# Altium integrated library Actel Axcelerator.IntLib: 162 symbols (part 15 of 42)
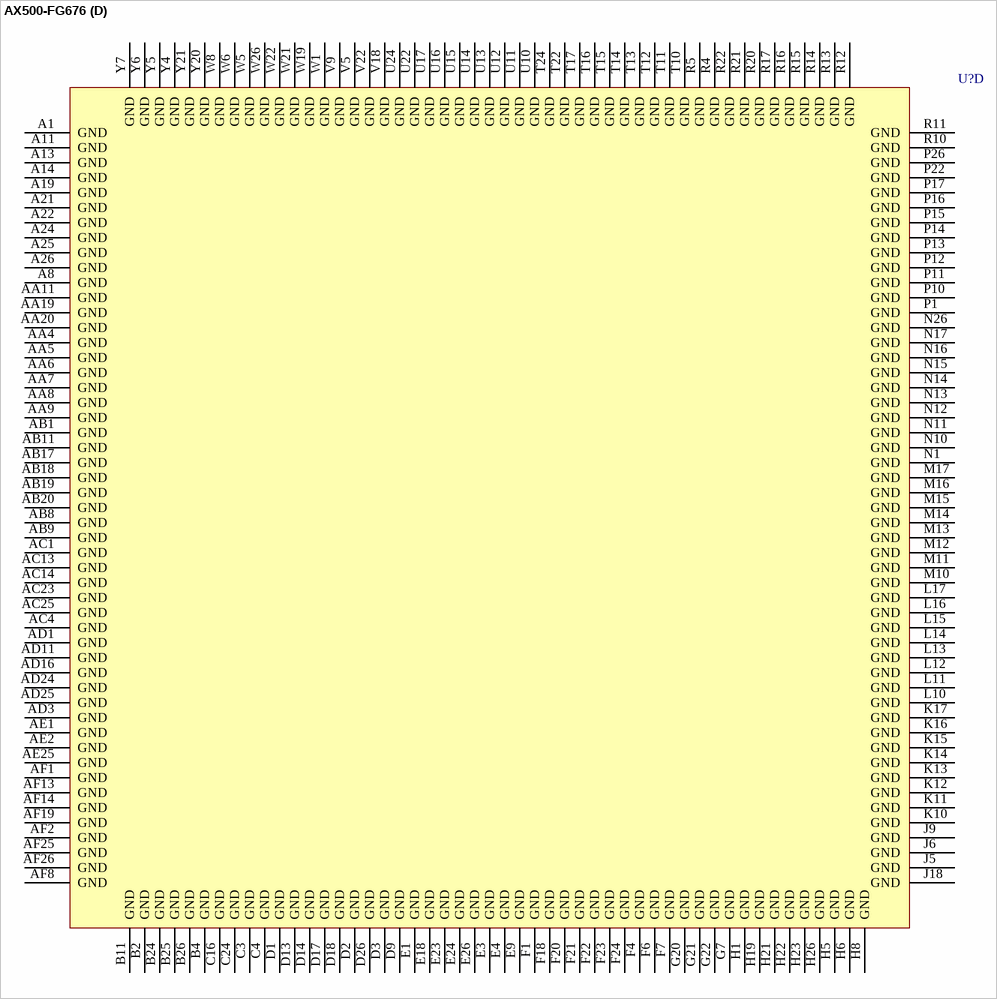
[diagram p413: symbol AX500-FG676]

## AX500-FG676
designator U?
Axcelerator AX500 FPGA, 336 I/Os, 676-Pin FBGA, Standard Speed Grade, Commercial Grade; DatasheetVersion: v2.8, Oct-2009; PackageVersion: rev39, Aug-2010; PackageReference: FG676; PackageDescription: 676-Ball Fine Pitch Plastic Ball Grid Array (FG676); Code_JEDEC: MS-034-AAL-1; Code_IPC: BGA100P26X26-676; ComponentLink1Description: Manufacturer URL; ComponentLink1URL: http://www.actel.com/; ComponentLink2Description: Axcelerator Datasheet; ComponentLink2URL: http://www.actel.com/documents/AX_DS.pdf; ComponentLink3Description: Package Mechanical Drawings; ComponentLink3URL: http://www.actel.com/documents/PckgMechDrwngs.pdf; ComponentLink4Description: Axcelerator Documents; ComponentLink4URL: http://www.actel.com/products/axcelerator/docs.aspx
footprint FG676 (BGA, 676-Leads, Body 27x27mm, Pitch 1mm)
part A pins: A4 IO01PB0F0 (io), A5 IO01NB0F0 (io), A6 IO07PB0F0 (io), A7 IO07NB0F0 (io), A9 IO16PB0F1 (io), A10 IO16NB0F1 (io), A12 IO19NB0F1/HCLKAN (io), A15 IO22NB1F2/HCLKDN (io), A16 IO24PB1F2 (io), A17 IO25PB1F2 (io), A18 IO25NB1F2 (io), A20 IO32PB1F3 (io), A23 IO38PB1F3 (io), AA22 IO82NB3F7 (io), AA23 IO81PB3F7 (io), AA24 IO75NB3F7 (io), AA25 IO78PB3F7 (io), AA26 IO74NB3F7 (io), AB23 IO81NB3F7 (io), AB24 IO80PB3F7 (io), AB25 IO78NB3F7 (io), AB26 IO79PB3F7 (io), AC24 IO80NB3F7 (io), AC26 IO79NB3F7 (io), AD26 IO83PB3F7 (io), AE26 IO83NB3F7 (io), B5 IO04NB0F0 (io), B6 IO05NB0F0 (io), B7 IO10PB0F0 (io), B8 IO10NB0F0 (io), B9 IO12NB0F1 (io), B10 IO15NB0F1 (io), B12 IO19PB0F1/HCLKAP (io), B13 IO20PB0F1/HCLKBP (io), B15 IO22PB1F2/HCLKDP (io), B16 IO24NB1F2 (io), B18 IO29PB1F2 (io), B19 IO29NB1F2 (io), B20 IO32NB1F3 (io), B21 IO33PB1F3 (io), B22 IO33NB1F3 (io), B23 IO38NB1F3 (io), C5 IO04PB0F0 (io), C6 IO05PB0F0 (io), C7 IO06NB0F0 (io), C8 IO08NB0F0 (io), C9 IO12PB0F1 (io), C10 IO15PB0F1 (io), C11 IO18PB0F1 (io), C12 IO18NB0F1 (io), C13 IO20NB0F1/HCLKBN (io), C14 IO21PB1F2/HCLKCP (io), C15 IO21NB1F2/HCLKCN (io), C17 IO28PB1F2 (io), C18 IO28NB1F2 (io), C19 IO30PB1F2 (io), C20 IO34PB1F3 (io), C21 IO35PB1F3 (io), C22 IO36PB1F3 (io), C23 IO40PB1F3 (io), C25 IO41PB1F3 (io), D5 IO03PB0F0 (io), D6 IO03NB0F0 (io), D7 IO06PB0F0 (io), D8 IO08PB0F0 (io), D10 IO11NB0F0 (io), D11 IO14NB0F1 (io), D16 IO26NB1F2 (io), D19 IO30NB1F2 (io), D20 IO34NB1F3 (io), D21 IO35NB1F3 (io), D22 IO36NB1F3 (io), D23 IO40NB1F3 (io), D25 IO41NB1F3 (io), E6 IO02PB0F0 (io), E7 IO02NB0F0 (io), E8 IO00PB0F0 (io), E10 IO11PB0F0 (io), E11 IO14PB0F1 (io), E16 IO26PB1F2 (io), E17 IO31PB1F2 (io), E19 IO37PB1F3 (io), E20 IO39PB1F3 (io), E21 IO39NB1F3 (io), E25 IO44PB2F4 (io), F8 IO00NB0F0 (io), F9 IO09PB0F0 (io), F10 IO09NB0F0 (io), F11 IO13NB0F1 (io), F12 IO17NB0F1 (io), F15 IO23NB1F2 (io), F16 IO27NB1F2 (io), F17 IO31NB1F2 (io), F19 IO37NB1F3 (io), F25 IO44NB2F4 (io), F26 IO43PB2F4 (io), G11 IO13PB0F1 (io), G12 IO17PB0F1 (io), G15 IO23PB1F2 (io), G16 IO27PB1F2 (io), G23 IO42PB2F4 (io), G24 IO42NB2F4 (io), G25 IO46PB2F4 (io), G26 IO43NB2F4 (io), H24 IO48PB2F4 (io), H25 IO46NB2F4 (io), J21 IO45NB2F4 (io), J22 IO45PB2F4 (io), J23 IO47PB2F4 (io), J24 IO48NB2F4 (io), J25 IO50PB2F4 (io), J26 IO52PB2F5 (io), K21 IO49NB2F4 (io), K22 IO49PB2F4 (io), K23 IO47NB2F4 (io), K24 IO54PB2F5 (io), K25 IO50NB2F4 (io), K26 IO52NB2F5 (io), L20 IO51NB2F4 (io), L21 IO51PB2F4 (io), L22 IO53PB2F5 (io), L23 IO53NB2F5 (io), L24 IO54NB2F5 (io), L25 IO56PB2F5 (io), L26 IO56NB2F5 (io), M20 IO55NB2F5 (io), M21 IO55PB2F5 (io), M22 IO57PB2F5 (io), M23 IO57NB2F5 (io), M24 IO60PB2F5 (io), M25 IO58PB2F5 (io), M26 IO58NB2F5 (io), N20 IO61NB2F5 (io), N21 IO61PB2F5 (io), N22 IO59NB2F5 (io), N23 IO59PB2F5 (io), N24 IO60NB2F5 (io), N25 IO62PB2F5 (io), P20 IO65NB3F6 (io), P21 IO65PB3F6 (io), P24 IO64PB3F6 (io), P25 IO62NB2F5 (io), R23 IO67PB3F6 (io), R24 IO64NB3F6 (io), R25 IO66PB3F6 (io), R26 IO63PB3F6 (io), T20 IO73PB3F6 (io), T21 IO73NB3F6 (io), T23 IO67NB3F6 (io), T25 IO66NB3F6 (io), T26 IO63NB3F6 (io), U21 IO77PB3F7 (io), U23 IO72PB3F6 (io), U25 IO69PB3F6 (io), U26 IO68PB3F6 (io), V21 IO77NB3F7 (io), V23 IO72NB3F6 (io), V24 IO71PB3F6 (io), V25 IO69NB3F6 (io), V26 IO68NB3F6 (io), W23 IO76PB3F7 (io), W24 IO71NB3F6 (io), W25 IO70PB3F6 (io), Y22 IO82PB3F7 (io), Y23 IO76NB3F7 (io), Y24 IO75PB3F7 (io), Y25 IO70NB3F6 (io), Y26 IO74PB3F7 (io)
part B pins: AA1 IO129PB6F12 (io), AA2 IO127NB6F12 (io), AA3 IO130PB6F12 (io), AA10 IO115NB5F11 (io), AA12 IO111PB5F10 (io), AA13 IO107PB5F10 (io), AA15 IO101NB4F9 (io), AA16 IO97NB4F9 (io), AA17 IO91NB4F8 (io), AA18 IO91PB4F8 (io), AA21 IO84PB4F8 (io), AB2 IO127PB6F12 (io), AB3 IO126NB6F12 (io), AB6 IO124NB5F11 (io), AB7 IO124PB5F11 (io), AB10 IO115PB5F11 (io), AB12 IO108PB5F10 (io), AB15 IO102PB4F9 (io), AB16 IO99PB4F9 (io), AB21 IO84NB4F8 (io), AC2 IO128NB6F12 (io), AC3 IO126PB6F12 (io), AC5 IO122NB5F11 (io), AC6 IO122PB5F11 (io), AC7 IO118NB5F11 (io), AC8 IO118PB5F11 (io), AC9 IO113NB5F10 (io), AC10 IO109NB5F10 (io), AC11 IO109PB5F10 (io), AC12 IO108NB5F10 (io), AC15 IO102NB4F9 (io), AC16 IO99NB4F9 (io), AC17 IO95NB4F9 (io), AC18 IO95PB4F9 (io), AC19 IO89NB4F8 (io), AC20 IO89PB4F8 (io), AC21 IO86NB4F8 (io), AC22 IO86PB4F8 (io), AD2 IO128PB6F12 (io), AD4 IO123NB5F11 (io), AD5 IO123PB5F11 (io), AD6 IO119NB5F11 (io), AD7 IO117NB5F11 (io), AD8 IO117PB5F11 (io), AD9 IO113PB5F10 (io), AD18 IO96NB4F9 (io), AD19 IO96PB4F9 (io), AD20 IO92NB4F8 (io), AD21 IO92PB4F8 (io), AD22 IO88NB4F8 (io), AD23 IO88PB4F8 (io), AE3 IO125NB5F11 (io), AE4 IO121PB5F11 (io), AE5 IO120NB5F11 (io), AE6 IO119PB5F11 (io), AE7 IO116NB5F11 (io), AE8 IO116PB5F11 (io), AE9 IO112NB5F10 (io), AE10 IO112PB5F10 (io), AE11 IO106NB5F10/CLKHN (io), AE12 IO105NB5F10/CLKGN (io), AE13 IO105PB5F10/CLKGP (io), AE14 IO104NB4F9/CLKFN (io), AE15 IO104PB4F9/CLKFP (io), AE16 IO103NB4F9/CLKEN (io), AE17 IO98NB4F9 (io), AE18 IO98PB4F9 (io), AE19 IO94NB4F9 (io), AE20 IO94PB4F9 (io), AE21 IO90NB4F8 (io), AE22 IO90PB4F8 (io), AE23 IO85NB4F8 (io), AE24 IO85PB4F8 (io), AF3 IO125PB5F11 (io), AF4 IO121NB5F11 (io), AF5 IO120PB5F11 (io), AF6 IO114NB5F11 (io), AF7 IO114PB5F11 (io), AF9 IO110NB5F10 (io), AF10 IO110PB5F10 (io), AF11 IO106PB5F10/CLKHP (io), AF16 IO103PB4F9/CLKEP (io), AF17 IO100NB4F9 (io), AF18 IO100PB4F9 (io), AF20 IO93NB4F8 (io), AF21 IO93PB4F8 (io), AF22 IO87NB4F8 (io), AF23 IO87PB4F8 (io), E2 IO166NB7F15 (io), F2 IO166PB7F15 (io), F3 IO165NB7F15 (io), F5 IO167NB7F15 (io), G1 IO163PB7F15 (io), G2 IO163NB7F15 (io), G3 IO165PB7F15 (io), G4 IO164NB7F15 (io), G5 IO167PB7F15 (io), H2 IO160NB7F15 (io), H3 IO162NB7F15 (io), H4 IO164PB7F15 (io), J1 IO158NB7F15 (io), J2 IO160PB7F15 (io), J3 IO162PB7F15 (io), J4 IO159NB7F15 (io), K1 IO158PB7F15 (io), K2 IO154NB7F14 (io), K3 IO155NB7F14 (io), K4 IO159PB7F15 (io), K5 IO161PB7F15 (io), K6 IO161NB7F15 (io), L1 IO150NB7F14 (io), L2 IO154PB7F14 (io), L3 IO155PB7F14 (io), L4 IO156PB7F14 (io), L5 IO156NB7F14 (io), L6 IO157NB7F14 (io), L7 IO157PB7F14 (io), M1 IO150PB7F14 (io), M2 IO151NB7F14 (io), M3 IO151PB7F14 (io), M4 IO152PB7F14 (io), M5 IO152NB7F14 (io), M6 IO153PB7F14 (io), M7 IO153NB7F14 (io), N2 IO149NB7F14 (io), N3 IO149PB7F14 (io), N4 IO148PB7F14 (io), N5 IO148NB7F14 (io), N6 IO147NB7F14 (io), N7 IO147PB7F14 (io), P3 IO143NB6F13 (io), P4 IO144PB6F13 (io), P5 IO144NB6F13 (io), P6 IO145NB6F13 (io), P7 IO145PB6F13 (io), R1 IO146NB6F13 (io), R2 IO142NB6F13 (io), R3 IO143PB6F13 (io), R6 IO139NB6F13 (io), R7 IO139PB6F13 (io), T1 IO146PB6F13 (io), T2 IO142PB6F13 (io), T3 IO140NB6F13 (io), T4 IO138PB6F13 (io), T5 IO138NB6F13 (io), T6 IO137NB6F13 (io), T7 IO137PB6F13 (io), U1 IO141NB6F13 (io), U2 IO141PB6F13 (io), U3 IO140PB6F13 (io), U4 IO136NB6F13 (io), U5 IO136PB6F13 (io), U6 IO131NB6F12 (io), V1 IO135NB6F12 (io), V2 IO135PB6F12 (io), V3 IO134NB6F12 (io), V4 IO133NB6F12 (io), V6 IO131PB6F12 (io), W2 IO132NB6F12 (io), W3 IO134PB6F12 (io), W4 IO133PB6F12 (io), Y1 IO129NB6F12 (io), Y2 IO132PB6F12 (io), Y3 IO130NB6F12 (io), Y11 IO111NB5F10 (io), Y12 IO107NB5F10 (io), Y15 IO101PB4F9 (io), Y16 IO97PB4F9 (io)
part C pins: A2 ~{TRST} (in), A3 VCCDA (power), AA14 VCCPLF (power), AB4 VCCA (power), AB5 VCCDA (power), AB13 VCCPLH (power), AB14 VCOMPLF (power), AB22 VCCDA (power), AD10 VCCDA (power), AD12 VCOMPLG (power), AD13 VCCDA (power), AD14 PRD (out), AD15 VCOMPLE (power), AD17 VCCDA (power), AF12 VCCPLG (power), AF15 VCCPLE (power), AF24 VCCA (power), B1 VCCDA (power), B3 TDI (in), B14 PRB (out), B17 VCCDA (power), C1 VCCA (power), C2 LP (in), C26 VCCA (power), D4 TMS (in), D12 VCOMPLA (power), D15 VCOMPLC (power), D24 VCCDA (power), E5 TCK (in), E12 VCCPLA (power), E13 PRA (out), E14 VCCDA (power), E15 VCCPLC (power), E22 VPUMP (power), F13 VCCPLB (power), F14 VCOMPLD (power), G6 TDO (hiz), G8 VCCIB0 (power), G9 VCCIB0 (power), G10 VCCIB0 (power), G13 VCOMPLB (power), G14 VCCPLD (power), G17 VCCIB1 (power), G18 VCCIB1 (power), G19 VCCIB1 (power), H7 VCCIB7 (power), H9 VCCIB0 (power), H10 VCCIB0 (power), H11 VCCIB0 (power), H12 VCCIB0 (power), H13 VCCIB0 (power), H14 VCCIB1 (power), H15 VCCIB1 (power), H16 VCCIB1 (power), H17 VCCIB1 (power), H18 VCCIB1 (power), H20 VCCIB2 (power), J7 VCCIB7 (power), J8 VCCIB7 (power), J10 VCCA (power), J11 VCCA (power), J12 VCCA (power), J13 VCCA (power), J14 VCCA (power), J15 VCCA (power), J16 VCCA (power), J17 VCCA (power), J19 VCCIB2 (power), J20 VCCIB2 (power), K7 VCCIB7 (power), K8 VCCIB7 (power), K9 VCCA (power), K18 VCCA (power), K19 VCCIB2 (power), K20 VCCIB2 (power), L8 VCCIB7 (power), L9 VCCA (power), L18 VCCA (power), L19 VCCIB2 (power), M8 VCCIB7 (power), M9 VCCA (power), M18 VCCA (power), M19 VCCIB2 (power), N8 VCCIB7 (power), N9 VCCA (power), N18 VCCA (power), N19 VCCIB2 (power), P2 VCCDA (power), P8 VCCIB6 (power), P9 VCCA (power), P18 VCCA (power), P19 VCCIB3 (power), P23 VCCDA (power), R8 VCCIB6 (power), R9 VCCA (power), R18 VCCA (power), R19 VCCIB3 (power), T8 VCCIB6 (power), T9 VCCA (power), T18 VCCA (power), T19 VCCIB3 (power), U7 VCCIB6 (power), U8 VCCIB6 (power), U9 VCCA (power), U18 VCCA (power), U19 VCCIB3 (power), U20 VCCIB3 (power), V7 VCCIB6 (power), V8 VCCIB6 (power), V10 VCCA (power), V11 VCCA (power), V12 VCCA (power), V13 VCCA (power), V14 VCCA (power), V15 VCCA (power), V16 VCCA (power), V17 VCCA (power), V19 VCCIB3 (power), V20 VCCIB3 (power), W7 VCCIB6 (power), W9 VCCIB5 (power), W10 VCCIB5 (power), W11 VCCIB5 (power), W12 VCCIB5 (power), W13 VCCIB5 (power), W14 VCCIB4 (power), W15 VCCIB4 (power), W16 VCCIB4 (power), W17 VCCIB4 (power), W18 VCCIB4 (power), W20 VCCIB3 (power), Y8 VCCIB5 (power), Y9 VCCIB5 (power), Y10 VCCIB5 (power), Y13 VCOMPLH (power), Y14 PRC (out), Y17 VCCIB4 (power), Y18 VCCIB4 (power), Y19 VCCIB4 (power)
part D pins: A1 GND (power), A8 GND (power), A11 GND (power), A13 GND (power), A14 GND (power), A19 GND (power), A21 GND (power), A22 GND (power), A24 GND (power), A25 GND (power), A26 GND (power), AA4 GND (power), AA5 GND (power), AA6 GND (power), AA7 GND (power), AA8 GND (power), AA9 GND (power), AA11 GND (power), AA19 GND (power), AA20 GND (power), AB1 GND (power), AB8 GND (power), AB9 GND (power), AB11 GND (power), AB17 GND (power), AB18 GND (power), AB19 GND (power), AB20 GND (power), AC1 GND (power), AC4 GND (power), AC13 GND (power), AC14 GND (power), AC23 GND (power), AC25 GND (power), AD1 GND (power), AD3 GND (power), AD11 GND (power), AD16 GND (power), AD24 GND (power), AD25 GND (power), AE1 GND (power), AE2 GND (power), AE25 GND (power), AF1 GND (power), AF2 GND (power), AF8 GND (power), AF13 GND (power), AF14 GND (power), AF19 GND (power), AF25 GND (power), AF26 GND (power), B2 GND (power), B4 GND (power), B11 GND (power), B24 GND (power), B25 GND (power), B26 GND (power), C3 GND (power), C4 GND (power), C16 GND (power), C24 GND (power), D1 GND (power), D2 GND (power), D3 GND (power), D9 GND (power), D13 GND (power), D14 GND (power), D17 GND (power), D18 GND (power), D26 GND (power), E1 GND (power), E3 GND (power), E4 GND (power), E9 GND (power), E18 GND (power), E23 GND (power), E24 GND (power), E26 GND (power), F1 GND (power), F4 GND (power), F6 GND (power), F7 GND (power), F18 GND (power), F20 GND (power), F21 GND (power), F22 GND (power), F23 GND (power), F24 GND (power), G7 GND (power), G20 GND (power), G21 GND (power), G22 GND (power), H1 GND (power), H5 GND (power), H6 GND (power), H8 GND (power), H19 GND (power), H21 GND (power), H22 GND (power), H23 GND (power), H26 GND (power), J5 GND (power), J6 GND (power), J9 GND (power), J18 GND (power), K10 GND (power), K11 GND (power), K12 GND (power), K13 GND (power), K14 GND (power), K15 GND (power), K16 GND (power), K17 GND (power), L10 GND (power), L11 GND (power), L12 GND (power), L13 GND (power), L14 GND (power), L15 GND (power), L16 GND (power), L17 GND (power), M10 GND (power), M11 GND (power), M12 GND (power), M13 GND (power), M14 GND (power), M15 GND (power), M16 GND (power), M17 GND (power), N1 GND (power), N10 GND (power), N11 GND (power), N12 GND (power), N13 GND (power), N14 GND (power), N15 GND (power), N16 GND (power), N17 GND (power), N26 GND (power), P1 GND (power), P10 GND (power), P11 GND (power), P12 GND (power), P13 GND (power), P14 GND (power), P15 GND (power), P16 GND (power), P17 GND (power), P22 GND (power), P26 GND (power), R4 GND (power), R5 GND (power), R10 GND (power), R11 GND (power), R12 GND (power), R13 GND (power), R14 GND (power), R15 GND (power), R16 GND (power), R17 GND (power), R20 GND (power), R21 GND (power), R22 GND (power), T10 GND (power), T11 GND (power), T12 GND (power), T13 GND (power), T14 GND (power), T15 GND (power), T16 GND (power), T17 GND (power), T22 GND (power), T24 GND (power), U10 GND (power), U11 GND (power), U12 GND (power), U13 GND (power), U14 GND (power), U15 GND (power), U16 GND (power), U17 GND (power), U22 GND (power), U24 GND (power), V5 GND (power), V9 GND (power), V18 GND (power), V22 GND (power), W1 GND (power), W5 GND (power), W6 GND (power), W8 GND (power), W19 GND (power), W21 GND (power), W22 GND (power), W26 GND (power), Y4 GND (power), Y5 GND (power), Y6 GND (power), Y7 GND (power), Y20 GND (power), Y21 GND (power)
part A text: Bank 0; Bank 3; Bank 1; Bank 2
part B text: Bank 4; Bank 7; Bank 5; Bank 6

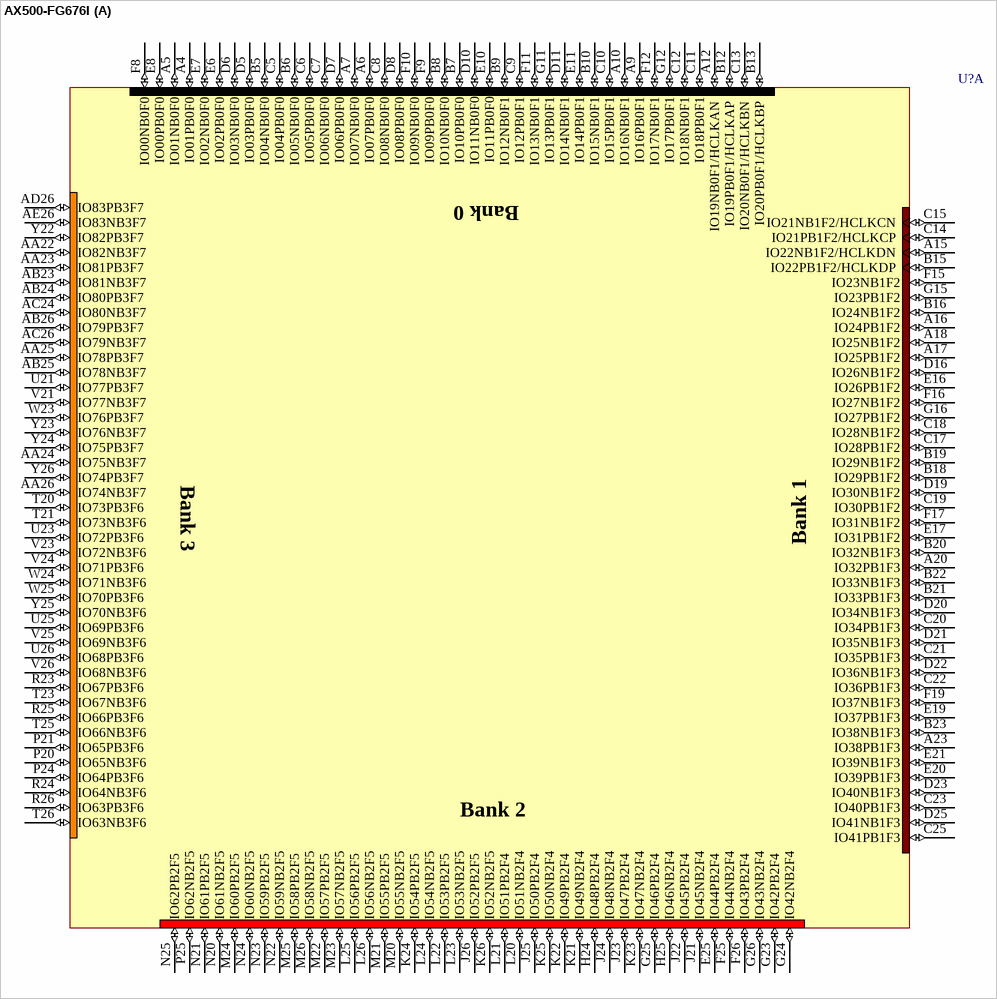
[diagram p173: symbol AX500-FG676I]

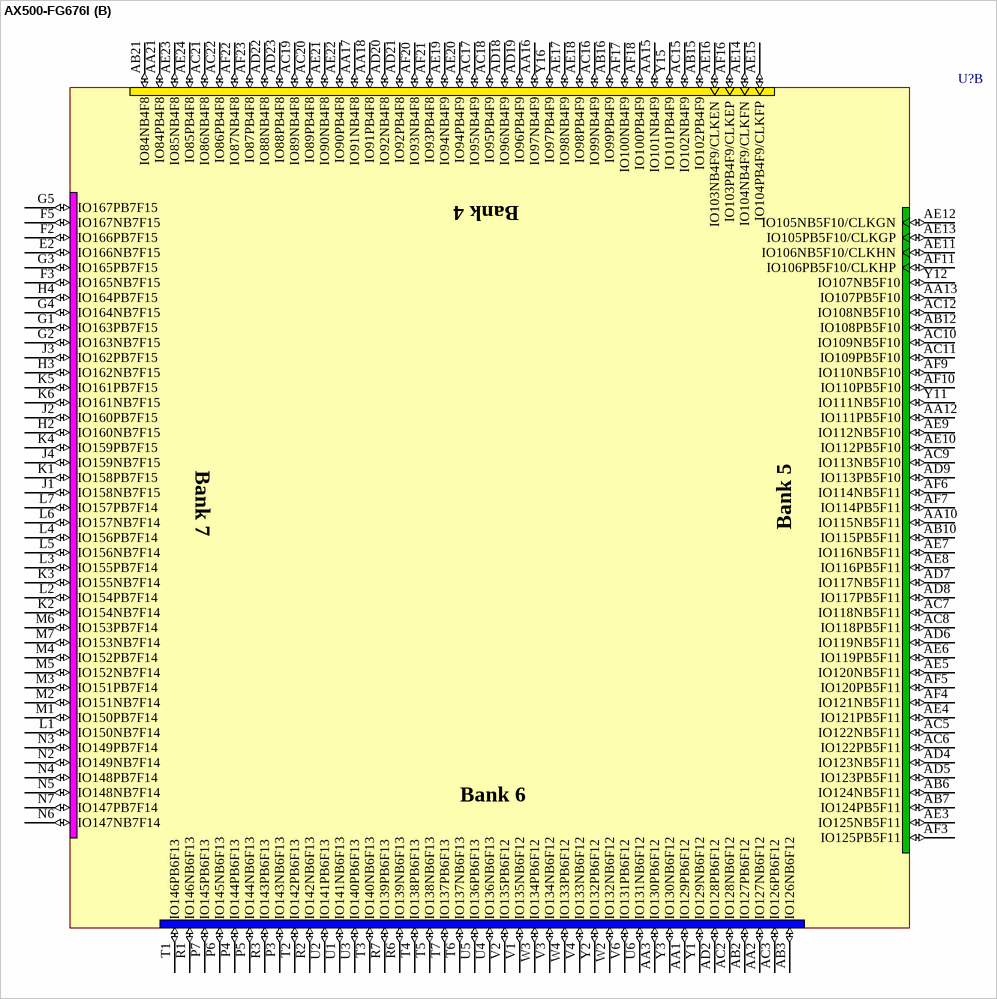
[diagram p174: symbol AX500-FG676I]

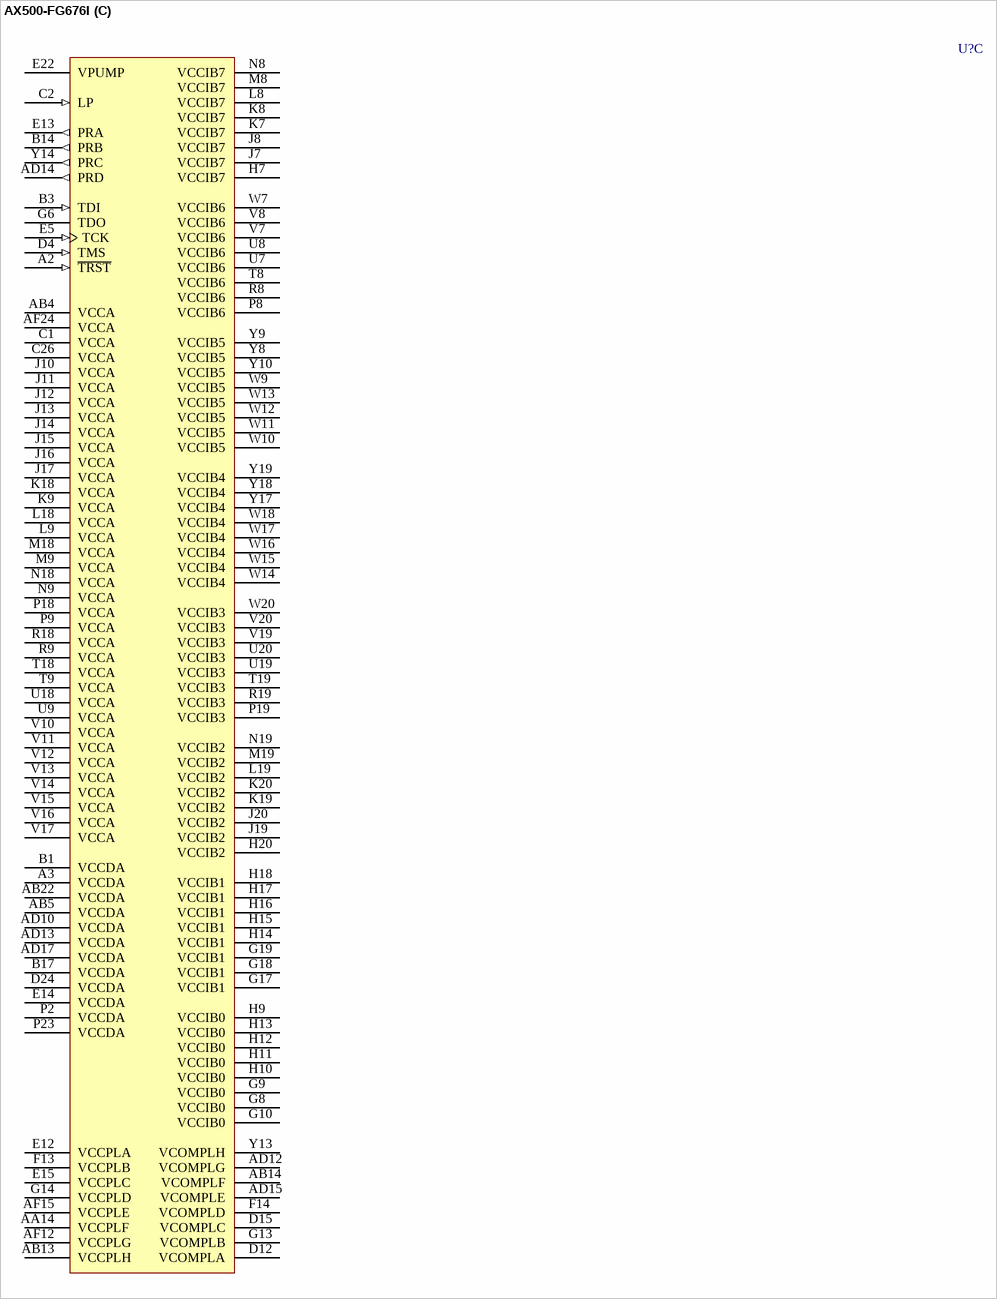
[diagram p175: symbol AX500-FG676I]

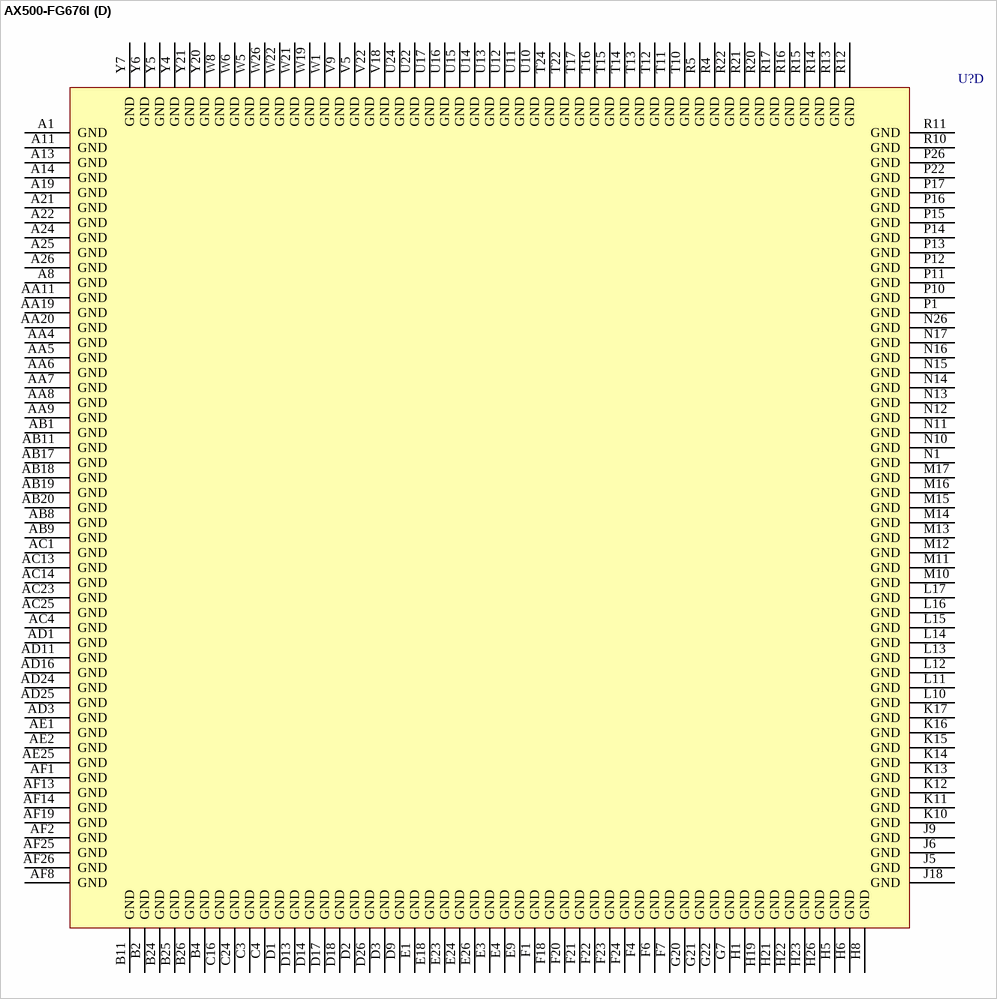
[diagram p176: symbol AX500-FG676I]

## AX500-FG676I
designator U?
Axcelerator AX500 FPGA, 336 I/Os, 676-Pin FBGA, Standard Speed Grade, Industrial Grade; DatasheetVersion: v2.8, Oct-2009; PackageVersion: rev39, Aug-2010; PackageReference: FG676; PackageDescription: 676-Ball Fine Pitch Plastic Ball Grid Array (FG676); Code_JEDEC: MS-034-AAL-1; Code_IPC: BGA100P26X26-676; ComponentLink1Description: Manufacturer URL; ComponentLink1URL: http://www.actel.com/; ComponentLink2Description: Axcelerator Datasheet; ComponentLink2URL: http://www.actel.com/documents/AX_DS.pdf; ComponentLink3Description: Package Mechanical Drawings; ComponentLink3URL: http://www.actel.com/documents/PckgMechDrwngs.pdf; ComponentLink4Description: Axcelerator Documents; ComponentLink4URL: http://www.actel.com/products/axcelerator/docs.aspx
footprint FG676 (BGA, 676-Leads, Body 27x27mm, Pitch 1mm)
part A pins: A4 IO01PB0F0 (io), A5 IO01NB0F0 (io), A6 IO07PB0F0 (io), A7 IO07NB0F0 (io), A9 IO16PB0F1 (io), A10 IO16NB0F1 (io), A12 IO19NB0F1/HCLKAN (io), A15 IO22NB1F2/HCLKDN (io), A16 IO24PB1F2 (io), A17 IO25PB1F2 (io), A18 IO25NB1F2 (io), A20 IO32PB1F3 (io), A23 IO38PB1F3 (io), AA22 IO82NB3F7 (io), AA23 IO81PB3F7 (io), AA24 IO75NB3F7 (io), AA25 IO78PB3F7 (io), AA26 IO74NB3F7 (io), AB23 IO81NB3F7 (io), AB24 IO80PB3F7 (io), AB25 IO78NB3F7 (io), AB26 IO79PB3F7 (io), AC24 IO80NB3F7 (io), AC26 IO79NB3F7 (io), AD26 IO83PB3F7 (io), AE26 IO83NB3F7 (io), B5 IO04NB0F0 (io), B6 IO05NB0F0 (io), B7 IO10PB0F0 (io), B8 IO10NB0F0 (io), B9 IO12NB0F1 (io), B10 IO15NB0F1 (io), B12 IO19PB0F1/HCLKAP (io), B13 IO20PB0F1/HCLKBP (io), B15 IO22PB1F2/HCLKDP (io), B16 IO24NB1F2 (io), B18 IO29PB1F2 (io), B19 IO29NB1F2 (io), B20 IO32NB1F3 (io), B21 IO33PB1F3 (io), B22 IO33NB1F3 (io), B23 IO38NB1F3 (io), C5 IO04PB0F0 (io), C6 IO05PB0F0 (io), C7 IO06NB0F0 (io), C8 IO08NB0F0 (io), C9 IO12PB0F1 (io), C10 IO15PB0F1 (io), C11 IO18PB0F1 (io), C12 IO18NB0F1 (io), C13 IO20NB0F1/HCLKBN (io), C14 IO21PB1F2/HCLKCP (io), C15 IO21NB1F2/HCLKCN (io), C17 IO28PB1F2 (io), C18 IO28NB1F2 (io), C19 IO30PB1F2 (io), C20 IO34PB1F3 (io), C21 IO35PB1F3 (io), C22 IO36PB1F3 (io), C23 IO40PB1F3 (io), C25 IO41PB1F3 (io), D5 IO03PB0F0 (io), D6 IO03NB0F0 (io), D7 IO06PB0F0 (io), D8 IO08PB0F0 (io), D10 IO11NB0F0 (io), D11 IO14NB0F1 (io), D16 IO26NB1F2 (io), D19 IO30NB1F2 (io), D20 IO34NB1F3 (io), D21 IO35NB1F3 (io), D22 IO36NB1F3 (io), D23 IO40NB1F3 (io), D25 IO41NB1F3 (io), E6 IO02PB0F0 (io), E7 IO02NB0F0 (io), E8 IO00PB0F0 (io), E10 IO11PB0F0 (io), E11 IO14PB0F1 (io), E16 IO26PB1F2 (io), E17 IO31PB1F2 (io), E19 IO37PB1F3 (io), E20 IO39PB1F3 (io), E21 IO39NB1F3 (io), E25 IO44PB2F4 (io), F8 IO00NB0F0 (io), F9 IO09PB0F0 (io), F10 IO09NB0F0 (io), F11 IO13NB0F1 (io), F12 IO17NB0F1 (io), F15 IO23NB1F2 (io), F16 IO27NB1F2 (io), F17 IO31NB1F2 (io), F19 IO37NB1F3 (io), F25 IO44NB2F4 (io), F26 IO43PB2F4 (io), G11 IO13PB0F1 (io), G12 IO17PB0F1 (io), G15 IO23PB1F2 (io), G16 IO27PB1F2 (io), G23 IO42PB2F4 (io), G24 IO42NB2F4 (io), G25 IO46PB2F4 (io), G26 IO43NB2F4 (io), H24 IO48PB2F4 (io), H25 IO46NB2F4 (io), J21 IO45NB2F4 (io), J22 IO45PB2F4 (io), J23 IO47PB2F4 (io), J24 IO48NB2F4 (io), J25 IO50PB2F4 (io), J26 IO52PB2F5 (io), K21 IO49NB2F4 (io), K22 IO49PB2F4 (io), K23 IO47NB2F4 (io), K24 IO54PB2F5 (io), K25 IO50NB2F4 (io), K26 IO52NB2F5 (io), L20 IO51NB2F4 (io), L21 IO51PB2F4 (io), L22 IO53PB2F5 (io), L23 IO53NB2F5 (io), L24 IO54NB2F5 (io), L25 IO56PB2F5 (io), L26 IO56NB2F5 (io), M20 IO55NB2F5 (io), M21 IO55PB2F5 (io), M22 IO57PB2F5 (io), M23 IO57NB2F5 (io), M24 IO60PB2F5 (io), M25 IO58PB2F5 (io), M26 IO58NB2F5 (io), N20 IO61NB2F5 (io), N21 IO61PB2F5 (io), N22 IO59NB2F5 (io), N23 IO59PB2F5 (io), N24 IO60NB2F5 (io), N25 IO62PB2F5 (io), P20 IO65NB3F6 (io), P21 IO65PB3F6 (io), P24 IO64PB3F6 (io), P25 IO62NB2F5 (io), R23 IO67PB3F6 (io), R24 IO64NB3F6 (io), R25 IO66PB3F6 (io), R26 IO63PB3F6 (io), T20 IO73PB3F6 (io), T21 IO73NB3F6 (io), T23 IO67NB3F6 (io), T25 IO66NB3F6 (io), T26 IO63NB3F6 (io), U21 IO77PB3F7 (io), U23 IO72PB3F6 (io), U25 IO69PB3F6 (io), U26 IO68PB3F6 (io), V21 IO77NB3F7 (io), V23 IO72NB3F6 (io), V24 IO71PB3F6 (io), V25 IO69NB3F6 (io), V26 IO68NB3F6 (io), W23 IO76PB3F7 (io), W24 IO71NB3F6 (io), W25 IO70PB3F6 (io), Y22 IO82PB3F7 (io), Y23 IO76NB3F7 (io), Y24 IO75PB3F7 (io), Y25 IO70NB3F6 (io), Y26 IO74PB3F7 (io)
part B pins: AA1 IO129PB6F12 (io), AA2 IO127NB6F12 (io), AA3 IO130PB6F12 (io), AA10 IO115NB5F11 (io), AA12 IO111PB5F10 (io), AA13 IO107PB5F10 (io), AA15 IO101NB4F9 (io), AA16 IO97NB4F9 (io), AA17 IO91NB4F8 (io), AA18 IO91PB4F8 (io), AA21 IO84PB4F8 (io), AB2 IO127PB6F12 (io), AB3 IO126NB6F12 (io), AB6 IO124NB5F11 (io), AB7 IO124PB5F11 (io), AB10 IO115PB5F11 (io), AB12 IO108PB5F10 (io), AB15 IO102PB4F9 (io), AB16 IO99PB4F9 (io), AB21 IO84NB4F8 (io), AC2 IO128NB6F12 (io), AC3 IO126PB6F12 (io), AC5 IO122NB5F11 (io), AC6 IO122PB5F11 (io), AC7 IO118NB5F11 (io), AC8 IO118PB5F11 (io), AC9 IO113NB5F10 (io), AC10 IO109NB5F10 (io), AC11 IO109PB5F10 (io), AC12 IO108NB5F10 (io), AC15 IO102NB4F9 (io), AC16 IO99NB4F9 (io), AC17 IO95NB4F9 (io), AC18 IO95PB4F9 (io), AC19 IO89NB4F8 (io), AC20 IO89PB4F8 (io), AC21 IO86NB4F8 (io), AC22 IO86PB4F8 (io), AD2 IO128PB6F12 (io), AD4 IO123NB5F11 (io), AD5 IO123PB5F11 (io), AD6 IO119NB5F11 (io), AD7 IO117NB5F11 (io), AD8 IO117PB5F11 (io), AD9 IO113PB5F10 (io), AD18 IO96NB4F9 (io), AD19 IO96PB4F9 (io), AD20 IO92NB4F8 (io), AD21 IO92PB4F8 (io), AD22 IO88NB4F8 (io), AD23 IO88PB4F8 (io), AE3 IO125NB5F11 (io), AE4 IO121PB5F11 (io), AE5 IO120NB5F11 (io), AE6 IO119PB5F11 (io), AE7 IO116NB5F11 (io), AE8 IO116PB5F11 (io), AE9 IO112NB5F10 (io), AE10 IO112PB5F10 (io), AE11 IO106NB5F10/CLKHN (io), AE12 IO105NB5F10/CLKGN (io), AE13 IO105PB5F10/CLKGP (io), AE14 IO104NB4F9/CLKFN (io), AE15 IO104PB4F9/CLKFP (io), AE16 IO103NB4F9/CLKEN (io), AE17 IO98NB4F9 (io), AE18 IO98PB4F9 (io), AE19 IO94NB4F9 (io), AE20 IO94PB4F9 (io), AE21 IO90NB4F8 (io), AE22 IO90PB4F8 (io), AE23 IO85NB4F8 (io), AE24 IO85PB4F8 (io), AF3 IO125PB5F11 (io), AF4 IO121NB5F11 (io), AF5 IO120PB5F11 (io), AF6 IO114NB5F11 (io), AF7 IO114PB5F11 (io), AF9 IO110NB5F10 (io), AF10 IO110PB5F10 (io), AF11 IO106PB5F10/CLKHP (io), AF16 IO103PB4F9/CLKEP (io), AF17 IO100NB4F9 (io), AF18 IO100PB4F9 (io), AF20 IO93NB4F8 (io), AF21 IO93PB4F8 (io), AF22 IO87NB4F8 (io), AF23 IO87PB4F8 (io), E2 IO166NB7F15 (io), F2 IO166PB7F15 (io), F3 IO165NB7F15 (io), F5 IO167NB7F15 (io), G1 IO163PB7F15 (io), G2 IO163NB7F15 (io), G3 IO165PB7F15 (io), G4 IO164NB7F15 (io), G5 IO167PB7F15 (io), H2 IO160NB7F15 (io), H3 IO162NB7F15 (io), H4 IO164PB7F15 (io), J1 IO158NB7F15 (io), J2 IO160PB7F15 (io), J3 IO162PB7F15 (io), J4 IO159NB7F15 (io), K1 IO158PB7F15 (io), K2 IO154NB7F14 (io), K3 IO155NB7F14 (io), K4 IO159PB7F15 (io), K5 IO161PB7F15 (io), K6 IO161NB7F15 (io), L1 IO150NB7F14 (io), L2 IO154PB7F14 (io), L3 IO155PB7F14 (io), L4 IO156PB7F14 (io), L5 IO156NB7F14 (io), L6 IO157NB7F14 (io), L7 IO157PB7F14 (io), M1 IO150PB7F14 (io), M2 IO151NB7F14 (io), M3 IO151PB7F14 (io), M4 IO152PB7F14 (io), M5 IO152NB7F14 (io), M6 IO153PB7F14 (io), M7 IO153NB7F14 (io), N2 IO149NB7F14 (io), N3 IO149PB7F14 (io), N4 IO148PB7F14 (io), N5 IO148NB7F14 (io), N6 IO147NB7F14 (io), N7 IO147PB7F14 (io), P3 IO143NB6F13 (io), P4 IO144PB6F13 (io), P5 IO144NB6F13 (io), P6 IO145NB6F13 (io), P7 IO145PB6F13 (io), R1 IO146NB6F13 (io), R2 IO142NB6F13 (io), R3 IO143PB6F13 (io), R6 IO139NB6F13 (io), R7 IO139PB6F13 (io), T1 IO146PB6F13 (io), T2 IO142PB6F13 (io), T3 IO140NB6F13 (io), T4 IO138PB6F13 (io), T5 IO138NB6F13 (io), T6 IO137NB6F13 (io), T7 IO137PB6F13 (io), U1 IO141NB6F13 (io), U2 IO141PB6F13 (io), U3 IO140PB6F13 (io), U4 IO136NB6F13 (io), U5 IO136PB6F13 (io), U6 IO131NB6F12 (io), V1 IO135NB6F12 (io), V2 IO135PB6F12 (io), V3 IO134NB6F12 (io), V4 IO133NB6F12 (io), V6 IO131PB6F12 (io), W2 IO132NB6F12 (io), W3 IO134PB6F12 (io), W4 IO133PB6F12 (io), Y1 IO129NB6F12 (io), Y2 IO132PB6F12 (io), Y3 IO130NB6F12 (io), Y11 IO111NB5F10 (io), Y12 IO107NB5F10 (io), Y15 IO101PB4F9 (io), Y16 IO97PB4F9 (io)
part C pins: A2 ~{TRST} (in), A3 VCCDA (power), AA14 VCCPLF (power), AB4 VCCA (power), AB5 VCCDA (power), AB13 VCCPLH (power), AB14 VCOMPLF (power), AB22 VCCDA (power), AD10 VCCDA (power), AD12 VCOMPLG (power), AD13 VCCDA (power), AD14 PRD (out), AD15 VCOMPLE (power), AD17 VCCDA (power), AF12 VCCPLG (power), AF15 VCCPLE (power), AF24 VCCA (power), B1 VCCDA (power), B3 TDI (in), B14 PRB (out), B17 VCCDA (power), C1 VCCA (power), C2 LP (in), C26 VCCA (power), D4 TMS (in), D12 VCOMPLA (power), D15 VCOMPLC (power), D24 VCCDA (power), E5 TCK (in), E12 VCCPLA (power), E13 PRA (out), E14 VCCDA (power), E15 VCCPLC (power), E22 VPUMP (power), F13 VCCPLB (power), F14 VCOMPLD (power), G6 TDO (hiz), G8 VCCIB0 (power), G9 VCCIB0 (power), G10 VCCIB0 (power), G13 VCOMPLB (power), G14 VCCPLD (power), G17 VCCIB1 (power), G18 VCCIB1 (power), G19 VCCIB1 (power), H7 VCCIB7 (power), H9 VCCIB0 (power), H10 VCCIB0 (power), H11 VCCIB0 (power), H12 VCCIB0 (power), H13 VCCIB0 (power), H14 VCCIB1 (power), H15 VCCIB1 (power), H16 VCCIB1 (power), H17 VCCIB1 (power), H18 VCCIB1 (power), H20 VCCIB2 (power), J7 VCCIB7 (power), J8 VCCIB7 (power), J10 VCCA (power), J11 VCCA (power), J12 VCCA (power), J13 VCCA (power), J14 VCCA (power), J15 VCCA (power), J16 VCCA (power), J17 VCCA (power), J19 VCCIB2 (power), J20 VCCIB2 (power), K7 VCCIB7 (power), K8 VCCIB7 (power), K9 VCCA (power), K18 VCCA (power), K19 VCCIB2 (power), K20 VCCIB2 (power), L8 VCCIB7 (power), L9 VCCA (power), L18 VCCA (power), L19 VCCIB2 (power), M8 VCCIB7 (power), M9 VCCA (power), M18 VCCA (power), M19 VCCIB2 (power), N8 VCCIB7 (power), N9 VCCA (power), N18 VCCA (power), N19 VCCIB2 (power), P2 VCCDA (power), P8 VCCIB6 (power), P9 VCCA (power), P18 VCCA (power), P19 VCCIB3 (power), P23 VCCDA (power), R8 VCCIB6 (power), R9 VCCA (power), R18 VCCA (power), R19 VCCIB3 (power), T8 VCCIB6 (power), T9 VCCA (power), T18 VCCA (power), T19 VCCIB3 (power), U7 VCCIB6 (power), U8 VCCIB6 (power), U9 VCCA (power), U18 VCCA (power), U19 VCCIB3 (power), U20 VCCIB3 (power), V7 VCCIB6 (power), V8 VCCIB6 (power), V10 VCCA (power), V11 VCCA (power), V12 VCCA (power), V13 VCCA (power), V14 VCCA (power), V15 VCCA (power), V16 VCCA (power), V17 VCCA (power), V19 VCCIB3 (power), V20 VCCIB3 (power), W7 VCCIB6 (power), W9 VCCIB5 (power), W10 VCCIB5 (power), W11 VCCIB5 (power), W12 VCCIB5 (power), W13 VCCIB5 (power), W14 VCCIB4 (power), W15 VCCIB4 (power), W16 VCCIB4 (power), W17 VCCIB4 (power), W18 VCCIB4 (power), W20 VCCIB3 (power), Y8 VCCIB5 (power), Y9 VCCIB5 (power), Y10 VCCIB5 (power), Y13 VCOMPLH (power), Y14 PRC (out), Y17 VCCIB4 (power), Y18 VCCIB4 (power), Y19 VCCIB4 (power)
part D pins: A1 GND (power), A8 GND (power), A11 GND (power), A13 GND (power), A14 GND (power), A19 GND (power), A21 GND (power), A22 GND (power), A24 GND (power), A25 GND (power), A26 GND (power), AA4 GND (power), AA5 GND (power), AA6 GND (power), AA7 GND (power), AA8 GND (power), AA9 GND (power), AA11 GND (power), AA19 GND (power), AA20 GND (power), AB1 GND (power), AB8 GND (power), AB9 GND (power), AB11 GND (power), AB17 GND (power), AB18 GND (power), AB19 GND (power), AB20 GND (power), AC1 GND (power), AC4 GND (power), AC13 GND (power), AC14 GND (power), AC23 GND (power), AC25 GND (power), AD1 GND (power), AD3 GND (power), AD11 GND (power), AD16 GND (power), AD24 GND (power), AD25 GND (power), AE1 GND (power), AE2 GND (power), AE25 GND (power), AF1 GND (power), AF2 GND (power), AF8 GND (power), AF13 GND (power), AF14 GND (power), AF19 GND (power), AF25 GND (power), AF26 GND (power), B2 GND (power), B4 GND (power), B11 GND (power), B24 GND (power), B25 GND (power), B26 GND (power), C3 GND (power), C4 GND (power), C16 GND (power), C24 GND (power), D1 GND (power), D2 GND (power), D3 GND (power), D9 GND (power), D13 GND (power), D14 GND (power), D17 GND (power), D18 GND (power), D26 GND (power), E1 GND (power), E3 GND (power), E4 GND (power), E9 GND (power), E18 GND (power), E23 GND (power), E24 GND (power), E26 GND (power), F1 GND (power), F4 GND (power), F6 GND (power), F7 GND (power), F18 GND (power), F20 GND (power), F21 GND (power), F22 GND (power), F23 GND (power), F24 GND (power), G7 GND (power), G20 GND (power), G21 GND (power), G22 GND (power), H1 GND (power), H5 GND (power), H6 GND (power), H8 GND (power), H19 GND (power), H21 GND (power), H22 GND (power), H23 GND (power), H26 GND (power), J5 GND (power), J6 GND (power), J9 GND (power), J18 GND (power), K10 GND (power), K11 GND (power), K12 GND (power), K13 GND (power), K14 GND (power), K15 GND (power), K16 GND (power), K17 GND (power), L10 GND (power), L11 GND (power), L12 GND (power), L13 GND (power), L14 GND (power), L15 GND (power), L16 GND (power), L17 GND (power), M10 GND (power), M11 GND (power), M12 GND (power), M13 GND (power), M14 GND (power), M15 GND (power), M16 GND (power), M17 GND (power), N1 GND (power), N10 GND (power), N11 GND (power), N12 GND (power), N13 GND (power), N14 GND (power), N15 GND (power), N16 GND (power), N17 GND (power), N26 GND (power), P1 GND (power), P10 GND (power), P11 GND (power), P12 GND (power), P13 GND (power), P14 GND (power), P15 GND (power), P16 GND (power), P17 GND (power), P22 GND (power), P26 GND (power), R4 GND (power), R5 GND (power), R10 GND (power), R11 GND (power), R12 GND (power), R13 GND (power), R14 GND (power), R15 GND (power), R16 GND (power), R17 GND (power), R20 GND (power), R21 GND (power), R22 GND (power), T10 GND (power), T11 GND (power), T12 GND (power), T13 GND (power), T14 GND (power), T15 GND (power), T16 GND (power), T17 GND (power), T22 GND (power), T24 GND (power), U10 GND (power), U11 GND (power), U12 GND (power), U13 GND (power), U14 GND (power), U15 GND (power), U16 GND (power), U17 GND (power), U22 GND (power), U24 GND (power), V5 GND (power), V9 GND (power), V18 GND (power), V22 GND (power), W1 GND (power), W5 GND (power), W6 GND (power), W8 GND (power), W19 GND (power), W21 GND (power), W22 GND (power), W26 GND (power), Y4 GND (power), Y5 GND (power), Y6 GND (power), Y7 GND (power), Y20 GND (power), Y21 GND (power)
part A text: Bank 0; Bank 3; Bank 1; Bank 2
part B text: Bank 4; Bank 7; Bank 5; Bank 6

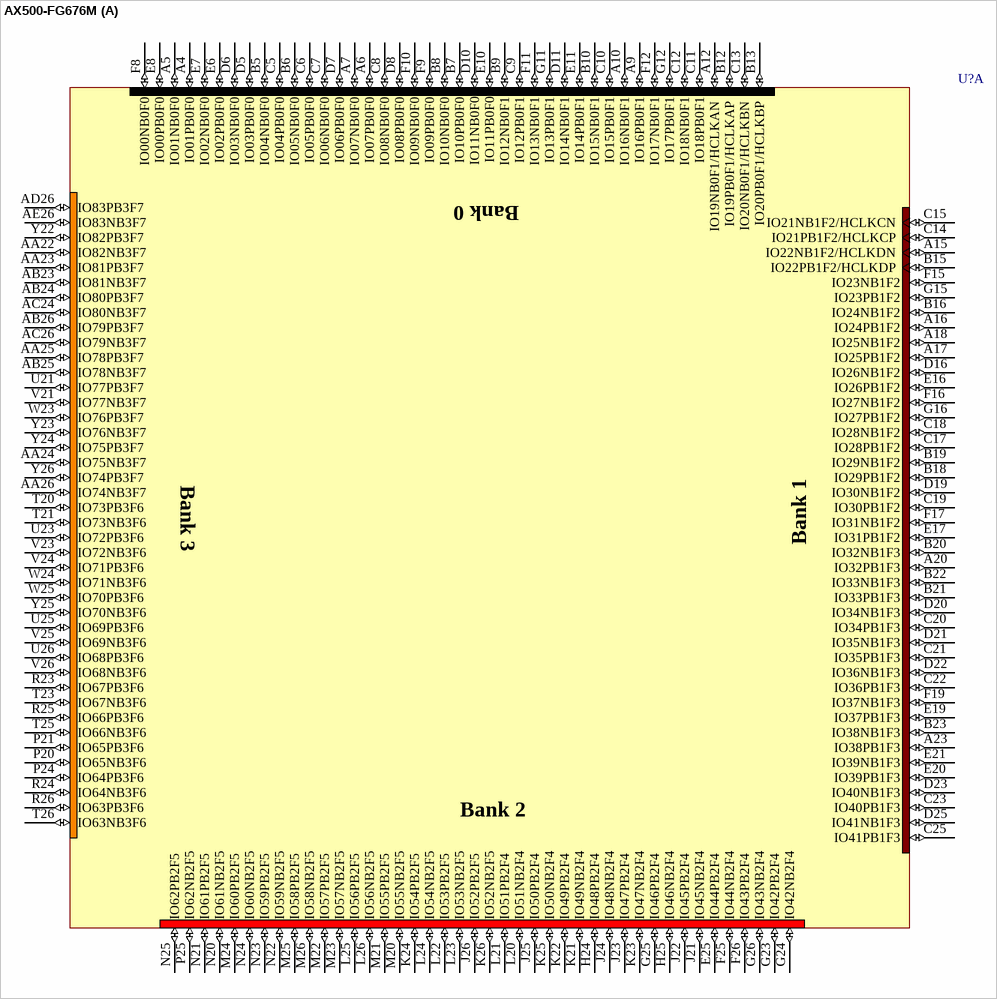
[diagram p177: symbol AX500-FG676M]

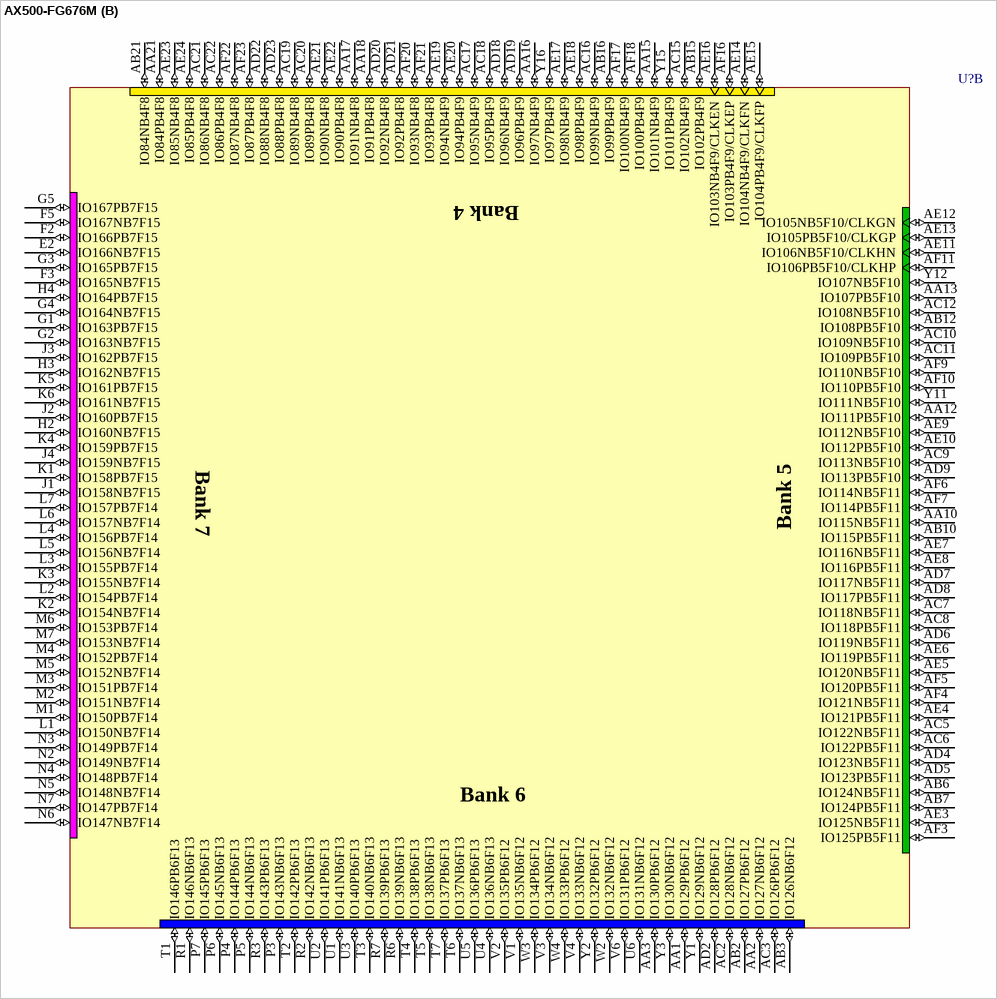
[diagram p178: symbol AX500-FG676M]

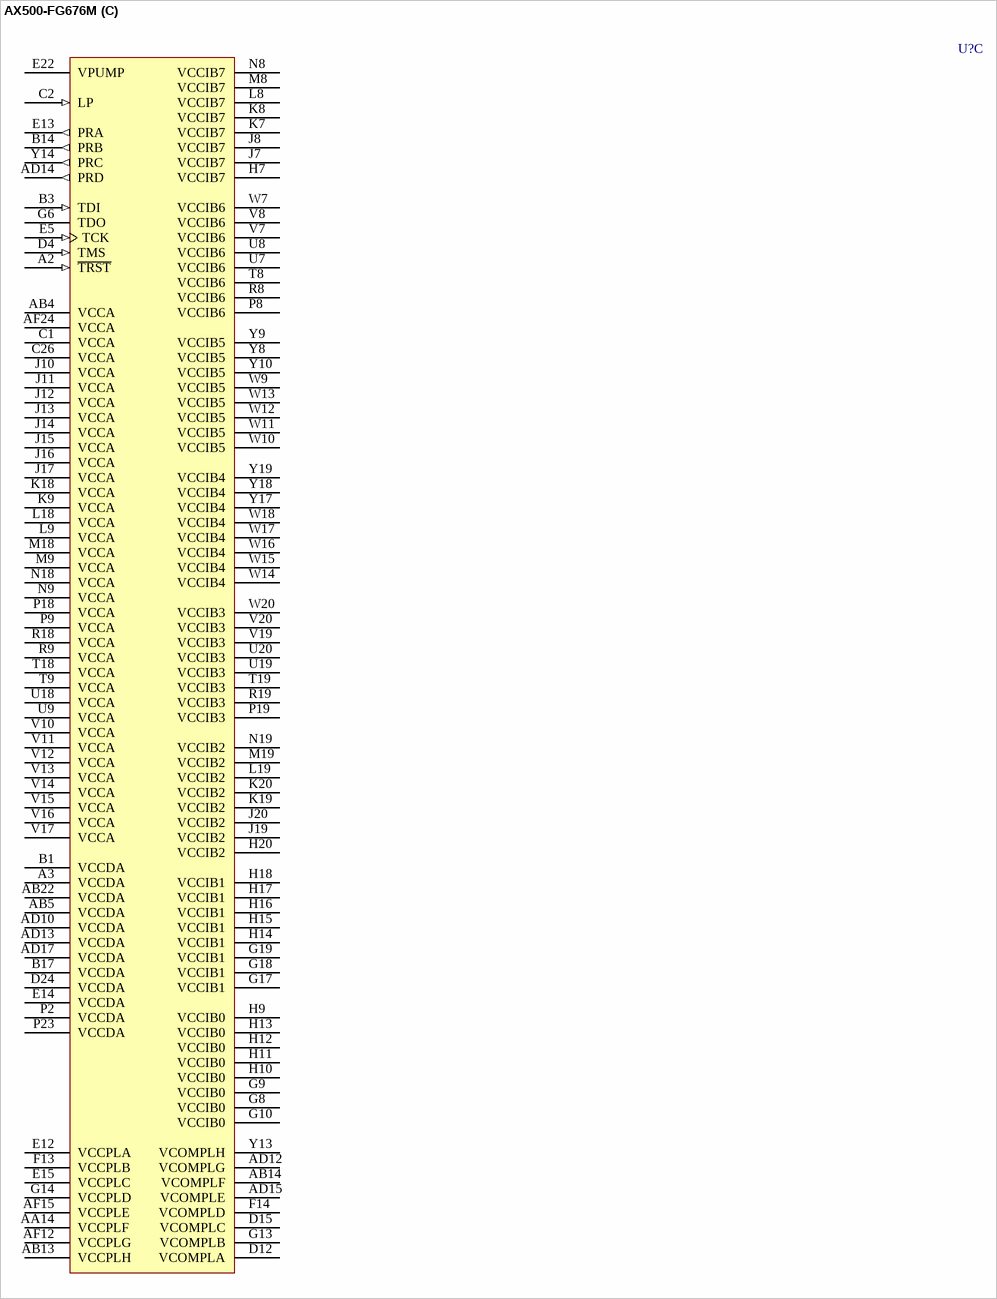
[diagram p179: symbol AX500-FG676M]

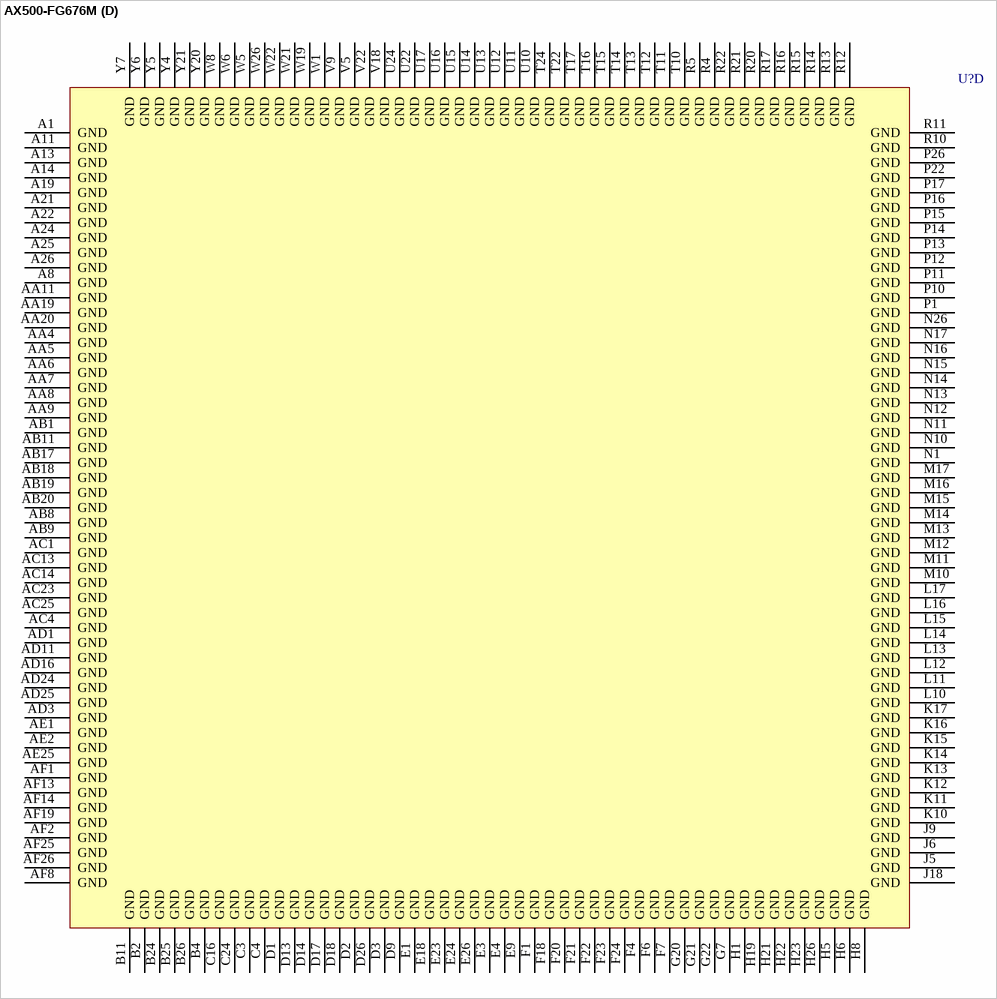
[diagram p180: symbol AX500-FG676M]

## AX500-FG676M
designator U?
Axcelerator AX500 FPGA, 336 User I/Os, 676-Pin FBGA, Standard Speed Grade, Military Grade; DatasheetVersion: v2.8, Oct-2009; PackageVersion: rev39, Aug-2010; PackageReference: FG676; PackageDescription: 676-Ball Fine Pitch Plastic Ball Grid Array (FG676); Code_JEDEC: MS-034-AAL-1; Code_IPC: BGA100P26X26-676; ComponentLink1Description: Manufacturer URL; ComponentLink1URL: http://www.actel.com/; ComponentLink2Description: Axcelerator Datasheet; ComponentLink2URL: http://www.actel.com/documents/AX_DS.pdf; ComponentLink3Description: Package Mechanical Drawings; ComponentLink3URL: http://www.actel.com/documents/PckgMechDrwngs.pdf; ComponentLink4Description: Axcelerator Documents; ComponentLink4URL: http://www.actel.com/products/axcelerator/docs.aspx
footprint FG676 (BGA, 676-Leads, Body 27x27mm, Pitch 1mm)
part A pins: A4 IO01PB0F0 (io), A5 IO01NB0F0 (io), A6 IO07PB0F0 (io), A7 IO07NB0F0 (io), A9 IO16PB0F1 (io), A10 IO16NB0F1 (io), A12 IO19NB0F1/HCLKAN (io), A15 IO22NB1F2/HCLKDN (io), A16 IO24PB1F2 (io), A17 IO25PB1F2 (io), A18 IO25NB1F2 (io), A20 IO32PB1F3 (io), A23 IO38PB1F3 (io), AA22 IO82NB3F7 (io), AA23 IO81PB3F7 (io), AA24 IO75NB3F7 (io), AA25 IO78PB3F7 (io), AA26 IO74NB3F7 (io), AB23 IO81NB3F7 (io), AB24 IO80PB3F7 (io), AB25 IO78NB3F7 (io), AB26 IO79PB3F7 (io), AC24 IO80NB3F7 (io), AC26 IO79NB3F7 (io), AD26 IO83PB3F7 (io), AE26 IO83NB3F7 (io), B5 IO04NB0F0 (io), B6 IO05NB0F0 (io), B7 IO10PB0F0 (io), B8 IO10NB0F0 (io), B9 IO12NB0F1 (io), B10 IO15NB0F1 (io), B12 IO19PB0F1/HCLKAP (io), B13 IO20PB0F1/HCLKBP (io), B15 IO22PB1F2/HCLKDP (io), B16 IO24NB1F2 (io), B18 IO29PB1F2 (io), B19 IO29NB1F2 (io), B20 IO32NB1F3 (io), B21 IO33PB1F3 (io), B22 IO33NB1F3 (io), B23 IO38NB1F3 (io), C5 IO04PB0F0 (io), C6 IO05PB0F0 (io), C7 IO06NB0F0 (io), C8 IO08NB0F0 (io), C9 IO12PB0F1 (io), C10 IO15PB0F1 (io), C11 IO18PB0F1 (io), C12 IO18NB0F1 (io), C13 IO20NB0F1/HCLKBN (io), C14 IO21PB1F2/HCLKCP (io), C15 IO21NB1F2/HCLKCN (io), C17 IO28PB1F2 (io), C18 IO28NB1F2 (io), C19 IO30PB1F2 (io), C20 IO34PB1F3 (io), C21 IO35PB1F3 (io), C22 IO36PB1F3 (io), C23 IO40PB1F3 (io), C25 IO41PB1F3 (io), D5 IO03PB0F0 (io), D6 IO03NB0F0 (io), D7 IO06PB0F0 (io), D8 IO08PB0F0 (io), D10 IO11NB0F0 (io), D11 IO14NB0F1 (io), D16 IO26NB1F2 (io), D19 IO30NB1F2 (io), D20 IO34NB1F3 (io), D21 IO35NB1F3 (io), D22 IO36NB1F3 (io), D23 IO40NB1F3 (io), D25 IO41NB1F3 (io), E6 IO02PB0F0 (io), E7 IO02NB0F0 (io), E8 IO00PB0F0 (io), E10 IO11PB0F0 (io), E11 IO14PB0F1 (io), E16 IO26PB1F2 (io), E17 IO31PB1F2 (io), E19 IO37PB1F3 (io), E20 IO39PB1F3 (io), E21 IO39NB1F3 (io), E25 IO44PB2F4 (io), F8 IO00NB0F0 (io), F9 IO09PB0F0 (io), F10 IO09NB0F0 (io), F11 IO13NB0F1 (io), F12 IO17NB0F1 (io), F15 IO23NB1F2 (io), F16 IO27NB1F2 (io), F17 IO31NB1F2 (io), F19 IO37NB1F3 (io), F25 IO44NB2F4 (io), F26 IO43PB2F4 (io), G11 IO13PB0F1 (io), G12 IO17PB0F1 (io), G15 IO23PB1F2 (io), G16 IO27PB1F2 (io), G23 IO42PB2F4 (io), G24 IO42NB2F4 (io), G25 IO46PB2F4 (io), G26 IO43NB2F4 (io), H24 IO48PB2F4 (io), H25 IO46NB2F4 (io), J21 IO45NB2F4 (io), J22 IO45PB2F4 (io), J23 IO47PB2F4 (io), J24 IO48NB2F4 (io), J25 IO50PB2F4 (io), J26 IO52PB2F5 (io), K21 IO49NB2F4 (io), K22 IO49PB2F4 (io), K23 IO47NB2F4 (io), K24 IO54PB2F5 (io), K25 IO50NB2F4 (io), K26 IO52NB2F5 (io), L20 IO51NB2F4 (io), L21 IO51PB2F4 (io), L22 IO53PB2F5 (io), L23 IO53NB2F5 (io), L24 IO54NB2F5 (io), L25 IO56PB2F5 (io), L26 IO56NB2F5 (io), M20 IO55NB2F5 (io), M21 IO55PB2F5 (io), M22 IO57PB2F5 (io), M23 IO57NB2F5 (io), M24 IO60PB2F5 (io), M25 IO58PB2F5 (io), M26 IO58NB2F5 (io), N20 IO61NB2F5 (io), N21 IO61PB2F5 (io), N22 IO59NB2F5 (io), N23 IO59PB2F5 (io), N24 IO60NB2F5 (io), N25 IO62PB2F5 (io), P20 IO65NB3F6 (io), P21 IO65PB3F6 (io), P24 IO64PB3F6 (io), P25 IO62NB2F5 (io), R23 IO67PB3F6 (io), R24 IO64NB3F6 (io), R25 IO66PB3F6 (io), R26 IO63PB3F6 (io), T20 IO73PB3F6 (io), T21 IO73NB3F6 (io), T23 IO67NB3F6 (io), T25 IO66NB3F6 (io), T26 IO63NB3F6 (io), U21 IO77PB3F7 (io), U23 IO72PB3F6 (io), U25 IO69PB3F6 (io), U26 IO68PB3F6 (io), V21 IO77NB3F7 (io), V23 IO72NB3F6 (io), V24 IO71PB3F6 (io), V25 IO69NB3F6 (io), V26 IO68NB3F6 (io), W23 IO76PB3F7 (io), W24 IO71NB3F6 (io), W25 IO70PB3F6 (io), Y22 IO82PB3F7 (io), Y23 IO76NB3F7 (io), Y24 IO75PB3F7 (io), Y25 IO70NB3F6 (io), Y26 IO74PB3F7 (io)
part B pins: AA1 IO129PB6F12 (io), AA2 IO127NB6F12 (io), AA3 IO130PB6F12 (io), AA10 IO115NB5F11 (io), AA12 IO111PB5F10 (io), AA13 IO107PB5F10 (io), AA15 IO101NB4F9 (io), AA16 IO97NB4F9 (io), AA17 IO91NB4F8 (io), AA18 IO91PB4F8 (io), AA21 IO84PB4F8 (io), AB2 IO127PB6F12 (io), AB3 IO126NB6F12 (io), AB6 IO124NB5F11 (io), AB7 IO124PB5F11 (io), AB10 IO115PB5F11 (io), AB12 IO108PB5F10 (io), AB15 IO102PB4F9 (io), AB16 IO99PB4F9 (io), AB21 IO84NB4F8 (io), AC2 IO128NB6F12 (io), AC3 IO126PB6F12 (io), AC5 IO122NB5F11 (io), AC6 IO122PB5F11 (io), AC7 IO118NB5F11 (io), AC8 IO118PB5F11 (io), AC9 IO113NB5F10 (io), AC10 IO109NB5F10 (io), AC11 IO109PB5F10 (io), AC12 IO108NB5F10 (io), AC15 IO102NB4F9 (io), AC16 IO99NB4F9 (io), AC17 IO95NB4F9 (io), AC18 IO95PB4F9 (io), AC19 IO89NB4F8 (io), AC20 IO89PB4F8 (io), AC21 IO86NB4F8 (io), AC22 IO86PB4F8 (io), AD2 IO128PB6F12 (io), AD4 IO123NB5F11 (io), AD5 IO123PB5F11 (io), AD6 IO119NB5F11 (io), AD7 IO117NB5F11 (io), AD8 IO117PB5F11 (io), AD9 IO113PB5F10 (io), AD18 IO96NB4F9 (io), AD19 IO96PB4F9 (io), AD20 IO92NB4F8 (io), AD21 IO92PB4F8 (io), AD22 IO88NB4F8 (io), AD23 IO88PB4F8 (io), AE3 IO125NB5F11 (io), AE4 IO121PB5F11 (io), AE5 IO120NB5F11 (io), AE6 IO119PB5F11 (io), AE7 IO116NB5F11 (io), AE8 IO116PB5F11 (io), AE9 IO112NB5F10 (io), AE10 IO112PB5F10 (io), AE11 IO106NB5F10/CLKHN (io), AE12 IO105NB5F10/CLKGN (io), AE13 IO105PB5F10/CLKGP (io), AE14 IO104NB4F9/CLKFN (io), AE15 IO104PB4F9/CLKFP (io), AE16 IO103NB4F9/CLKEN (io), AE17 IO98NB4F9 (io), AE18 IO98PB4F9 (io), AE19 IO94NB4F9 (io), AE20 IO94PB4F9 (io), AE21 IO90NB4F8 (io), AE22 IO90PB4F8 (io), AE23 IO85NB4F8 (io), AE24 IO85PB4F8 (io), AF3 IO125PB5F11 (io), AF4 IO121NB5F11 (io), AF5 IO120PB5F11 (io), AF6 IO114NB5F11 (io), AF7 IO114PB5F11 (io), AF9 IO110NB5F10 (io), AF10 IO110PB5F10 (io), AF11 IO106PB5F10/CLKHP (io), AF16 IO103PB4F9/CLKEP (io), AF17 IO100NB4F9 (io), AF18 IO100PB4F9 (io), AF20 IO93NB4F8 (io), AF21 IO93PB4F8 (io), AF22 IO87NB4F8 (io), AF23 IO87PB4F8 (io), E2 IO166NB7F15 (io), F2 IO166PB7F15 (io), F3 IO165NB7F15 (io), F5 IO167NB7F15 (io), G1 IO163PB7F15 (io), G2 IO163NB7F15 (io), G3 IO165PB7F15 (io), G4 IO164NB7F15 (io), G5 IO167PB7F15 (io), H2 IO160NB7F15 (io), H3 IO162NB7F15 (io), H4 IO164PB7F15 (io), J1 IO158NB7F15 (io), J2 IO160PB7F15 (io), J3 IO162PB7F15 (io), J4 IO159NB7F15 (io), K1 IO158PB7F15 (io), K2 IO154NB7F14 (io), K3 IO155NB7F14 (io), K4 IO159PB7F15 (io), K5 IO161PB7F15 (io), K6 IO161NB7F15 (io), L1 IO150NB7F14 (io), L2 IO154PB7F14 (io), L3 IO155PB7F14 (io), L4 IO156PB7F14 (io), L5 IO156NB7F14 (io), L6 IO157NB7F14 (io), L7 IO157PB7F14 (io), M1 IO150PB7F14 (io), M2 IO151NB7F14 (io), M3 IO151PB7F14 (io), M4 IO152PB7F14 (io), M5 IO152NB7F14 (io), M6 IO153PB7F14 (io), M7 IO153NB7F14 (io), N2 IO149NB7F14 (io), N3 IO149PB7F14 (io), N4 IO148PB7F14 (io), N5 IO148NB7F14 (io), N6 IO147NB7F14 (io), N7 IO147PB7F14 (io), P3 IO143NB6F13 (io), P4 IO144PB6F13 (io), P5 IO144NB6F13 (io), P6 IO145NB6F13 (io), P7 IO145PB6F13 (io), R1 IO146NB6F13 (io), R2 IO142NB6F13 (io), R3 IO143PB6F13 (io), R6 IO139NB6F13 (io), R7 IO139PB6F13 (io), T1 IO146PB6F13 (io), T2 IO142PB6F13 (io), T3 IO140NB6F13 (io), T4 IO138PB6F13 (io), T5 IO138NB6F13 (io), T6 IO137NB6F13 (io), T7 IO137PB6F13 (io), U1 IO141NB6F13 (io), U2 IO141PB6F13 (io), U3 IO140PB6F13 (io), U4 IO136NB6F13 (io), U5 IO136PB6F13 (io), U6 IO131NB6F12 (io), V1 IO135NB6F12 (io), V2 IO135PB6F12 (io), V3 IO134NB6F12 (io), V4 IO133NB6F12 (io), V6 IO131PB6F12 (io), W2 IO132NB6F12 (io), W3 IO134PB6F12 (io), W4 IO133PB6F12 (io), Y1 IO129NB6F12 (io), Y2 IO132PB6F12 (io), Y3 IO130NB6F12 (io), Y11 IO111NB5F10 (io), Y12 IO107NB5F10 (io), Y15 IO101PB4F9 (io), Y16 IO97PB4F9 (io)
part C pins: A2 ~{TRST} (in), A3 VCCDA (power), AA14 VCCPLF (power), AB4 VCCA (power), AB5 VCCDA (power), AB13 VCCPLH (power), AB14 VCOMPLF (power), AB22 VCCDA (power), AD10 VCCDA (power), AD12 VCOMPLG (power), AD13 VCCDA (power), AD14 PRD (out), AD15 VCOMPLE (power), AD17 VCCDA (power), AF12 VCCPLG (power), AF15 VCCPLE (power), AF24 VCCA (power), B1 VCCDA (power), B3 TDI (in), B14 PRB (out), B17 VCCDA (power), C1 VCCA (power), C2 LP (in), C26 VCCA (power), D4 TMS (in), D12 VCOMPLA (power), D15 VCOMPLC (power), D24 VCCDA (power), E5 TCK (in), E12 VCCPLA (power), E13 PRA (out), E14 VCCDA (power), E15 VCCPLC (power), E22 VPUMP (power), F13 VCCPLB (power), F14 VCOMPLD (power), G6 TDO (hiz), G8 VCCIB0 (power), G9 VCCIB0 (power), G10 VCCIB0 (power), G13 VCOMPLB (power), G14 VCCPLD (power), G17 VCCIB1 (power), G18 VCCIB1 (power), G19 VCCIB1 (power), H7 VCCIB7 (power), H9 VCCIB0 (power), H10 VCCIB0 (power), H11 VCCIB0 (power), H12 VCCIB0 (power), H13 VCCIB0 (power), H14 VCCIB1 (power), H15 VCCIB1 (power), H16 VCCIB1 (power), H17 VCCIB1 (power), H18 VCCIB1 (power), H20 VCCIB2 (power), J7 VCCIB7 (power), J8 VCCIB7 (power), J10 VCCA (power), J11 VCCA (power), J12 VCCA (power), J13 VCCA (power), J14 VCCA (power), J15 VCCA (power), J16 VCCA (power), J17 VCCA (power), J19 VCCIB2 (power), J20 VCCIB2 (power), K7 VCCIB7 (power), K8 VCCIB7 (power), K9 VCCA (power), K18 VCCA (power), K19 VCCIB2 (power), K20 VCCIB2 (power), L8 VCCIB7 (power), L9 VCCA (power), L18 VCCA (power), L19 VCCIB2 (power), M8 VCCIB7 (power), M9 VCCA (power), M18 VCCA (power), M19 VCCIB2 (power), N8 VCCIB7 (power), N9 VCCA (power), N18 VCCA (power), N19 VCCIB2 (power), P2 VCCDA (power), P8 VCCIB6 (power), P9 VCCA (power), P18 VCCA (power), P19 VCCIB3 (power), P23 VCCDA (power), R8 VCCIB6 (power), R9 VCCA (power), R18 VCCA (power), R19 VCCIB3 (power), T8 VCCIB6 (power), T9 VCCA (power), T18 VCCA (power), T19 VCCIB3 (power), U7 VCCIB6 (power), U8 VCCIB6 (power), U9 VCCA (power), U18 VCCA (power), U19 VCCIB3 (power), U20 VCCIB3 (power), V7 VCCIB6 (power), V8 VCCIB6 (power), V10 VCCA (power), V11 VCCA (power), V12 VCCA (power), V13 VCCA (power), V14 VCCA (power), V15 VCCA (power), V16 VCCA (power), V17 VCCA (power), V19 VCCIB3 (power), V20 VCCIB3 (power), W7 VCCIB6 (power), W9 VCCIB5 (power), W10 VCCIB5 (power), W11 VCCIB5 (power), W12 VCCIB5 (power), W13 VCCIB5 (power), W14 VCCIB4 (power), W15 VCCIB4 (power), W16 VCCIB4 (power), W17 VCCIB4 (power), W18 VCCIB4 (power), W20 VCCIB3 (power), Y8 VCCIB5 (power), Y9 VCCIB5 (power), Y10 VCCIB5 (power), Y13 VCOMPLH (power), Y14 PRC (out), Y17 VCCIB4 (power), Y18 VCCIB4 (power), Y19 VCCIB4 (power)
part D pins: A1 GND (power), A8 GND (power), A11 GND (power), A13 GND (power), A14 GND (power), A19 GND (power), A21 GND (power), A22 GND (power), A24 GND (power), A25 GND (power), A26 GND (power), AA4 GND (power), AA5 GND (power), AA6 GND (power), AA7 GND (power), AA8 GND (power), AA9 GND (power), AA11 GND (power), AA19 GND (power), AA20 GND (power), AB1 GND (power), AB8 GND (power), AB9 GND (power), AB11 GND (power), AB17 GND (power), AB18 GND (power), AB19 GND (power), AB20 GND (power), AC1 GND (power), AC4 GND (power), AC13 GND (power), AC14 GND (power), AC23 GND (power), AC25 GND (power), AD1 GND (power), AD3 GND (power), AD11 GND (power), AD16 GND (power), AD24 GND (power), AD25 GND (power), AE1 GND (power), AE2 GND (power), AE25 GND (power), AF1 GND (power), AF2 GND (power), AF8 GND (power), AF13 GND (power), AF14 GND (power), AF19 GND (power), AF25 GND (power), AF26 GND (power), B2 GND (power), B4 GND (power), B11 GND (power), B24 GND (power), B25 GND (power), B26 GND (power), C3 GND (power), C4 GND (power), C16 GND (power), C24 GND (power), D1 GND (power), D2 GND (power), D3 GND (power), D9 GND (power), D13 GND (power), D14 GND (power), D17 GND (power), D18 GND (power), D26 GND (power), E1 GND (power), E3 GND (power), E4 GND (power), E9 GND (power), E18 GND (power), E23 GND (power), E24 GND (power), E26 GND (power), F1 GND (power), F4 GND (power), F6 GND (power), F7 GND (power), F18 GND (power), F20 GND (power), F21 GND (power), F22 GND (power), F23 GND (power), F24 GND (power), G7 GND (power), G20 GND (power), G21 GND (power), G22 GND (power), H1 GND (power), H5 GND (power), H6 GND (power), H8 GND (power), H19 GND (power), H21 GND (power), H22 GND (power), H23 GND (power), H26 GND (power), J5 GND (power), J6 GND (power), J9 GND (power), J18 GND (power), K10 GND (power), K11 GND (power), K12 GND (power), K13 GND (power), K14 GND (power), K15 GND (power), K16 GND (power), K17 GND (power), L10 GND (power), L11 GND (power), L12 GND (power), L13 GND (power), L14 GND (power), L15 GND (power), L16 GND (power), L17 GND (power), M10 GND (power), M11 GND (power), M12 GND (power), M13 GND (power), M14 GND (power), M15 GND (power), M16 GND (power), M17 GND (power), N1 GND (power), N10 GND (power), N11 GND (power), N12 GND (power), N13 GND (power), N14 GND (power), N15 GND (power), N16 GND (power), N17 GND (power), N26 GND (power), P1 GND (power), P10 GND (power), P11 GND (power), P12 GND (power), P13 GND (power), P14 GND (power), P15 GND (power), P16 GND (power), P17 GND (power), P22 GND (power), P26 GND (power), R4 GND (power), R5 GND (power), R10 GND (power), R11 GND (power), R12 GND (power), R13 GND (power), R14 GND (power), R15 GND (power), R16 GND (power), R17 GND (power), R20 GND (power), R21 GND (power), R22 GND (power), T10 GND (power), T11 GND (power), T12 GND (power), T13 GND (power), T14 GND (power), T15 GND (power), T16 GND (power), T17 GND (power), T22 GND (power), T24 GND (power), U10 GND (power), U11 GND (power), U12 GND (power), U13 GND (power), U14 GND (power), U15 GND (power), U16 GND (power), U17 GND (power), U22 GND (power), U24 GND (power), V5 GND (power), V9 GND (power), V18 GND (power), V22 GND (power), W1 GND (power), W5 GND (power), W6 GND (power), W8 GND (power), W19 GND (power), W21 GND (power), W22 GND (power), W26 GND (power), Y4 GND (power), Y5 GND (power), Y6 GND (power), Y7 GND (power), Y20 GND (power), Y21 GND (power)
part A text: Bank 0; Bank 3; Bank 1; Bank 2
part B text: Bank 4; Bank 7; Bank 5; Bank 6

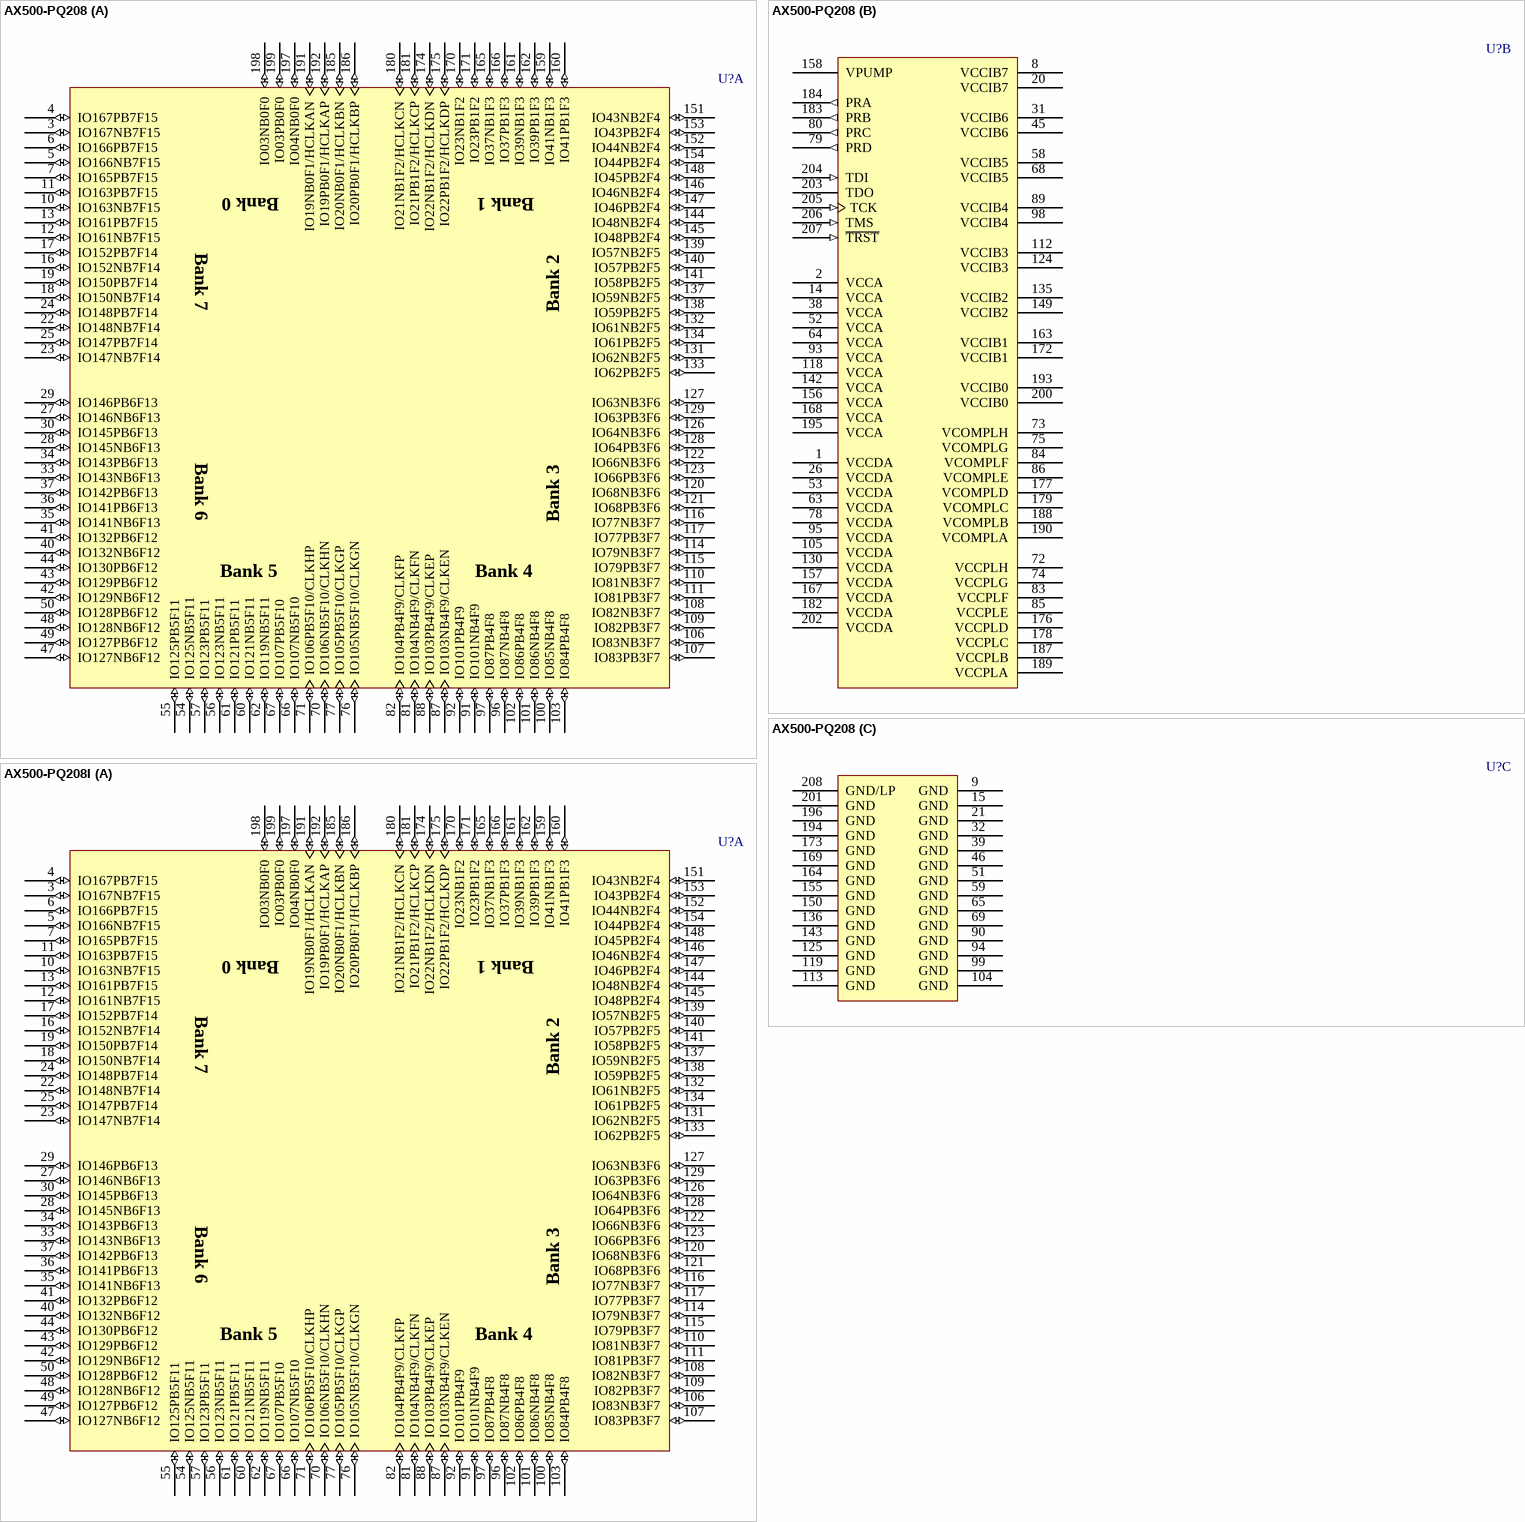
[diagram p181: symbols AX500-PQ208 to AX500-PQ208I]

## AX500-PQ208
designator U?
Axcelerator AX500 FPGA, 115 User I/Os, 208-Pin PQFP, Speed Grade 1, Commercial Grade; DatasheetVersion: v2.8, Oct-2009; PackageVersion: ver11.2, Nov-2009; PackageReference: PQ208; PackageDescription: 208-Pin Plastic Quad Flat Pack (PQ208); Code_JEDEC: MS-029-FA-1; ComponentLink1Description: Manufacturer URL; ComponentLink1URL: http://www.actel.com/; ComponentLink2Description: Axcelerator Datasheet; ComponentLink2URL: http://www.actel.com/documents/AX_DS.pdf; ComponentLink3Description: Package Mechanical Drawings; ComponentLink3URL: http://www.actel.com/documents/PckgMechDrwngs.pdf; ComponentLink4Description: Axcelerator Documents; ComponentLink4URL: http://www.actel.com/products/axcelerator/docs.aspx
footprint PQ208_N (Shrink QFP, 208-Leads, Body 28x28mm, Pitch 0.5mm, IPC Medium Density)
footprint PQ208_L (Shrink QFP, 208-Leads, Body 28x28mm, Pitch 0.5mm, IPC High Density)
footprint PQ208_M (Shrink QFP, 208-Leads, Body 28x28mm, Pitch 0.5mm, IPC Low Density)
part A pins: 3 IO167NB7F15 (io), 4 IO167PB7F15 (io), 5 IO166NB7F15 (io), 6 IO166PB7F15 (io), 7 IO165PB7F15 (io), 10 IO163NB7F15 (io), 11 IO163PB7F15 (io), 12 IO161NB7F15 (io), 13 IO161PB7F15 (io), 16 IO152NB7F14 (io), 17 IO152PB7F14 (io), 18 IO150NB7F14 (io), 19 IO150PB7F14 (io), 22 IO148NB7F14 (io), 23 IO147NB7F14 (io), 24 IO148PB7F14 (io), 25 IO147PB7F14 (io), 27 IO146NB6F13 (io), 28 IO145NB6F13 (io), 29 IO146PB6F13 (io), 30 IO145PB6F13 (io), 33 IO143NB6F13 (io), 34 IO143PB6F13 (io), 35 IO141NB6F13 (io), 36 IO141PB6F13 (io), 37 IO142PB6F13 (io), 40 IO132NB6F12 (io), 41 IO132PB6F12 (io), 42 IO129NB6F12 (io), 43 IO129PB6F12 (io), 44 IO130PB6F12 (io), 47 IO127NB6F12 (io), 48 IO128NB6F12 (io), 49 IO127PB6F12 (io), 50 IO128PB6F12 (io), 54 IO125NB5F11 (io), 55 IO125PB5F11 (io), 56 IO123NB5F11 (io), 57 IO123PB5F11 (io), 60 IO121NB5F11 (io), 61 IO121PB5F11 (io), 62 IO119NB5F11 (io), 66 IO107NB5F10 (io), 67 IO107PB5F10 (io), 70 IO106NB5F10/CLKHN (io), 71 IO106PB5F10/CLKHP (io), 76 IO105NB5F10/CLKGN (io), 77 IO105PB5F10/CLKGP (io), 81 IO104NB4F9/CLKFN (io), 82 IO104PB4F9/CLKFP (io), 87 IO103NB4F9/CLKEN (io), 88 IO103PB4F9/CLKEP (io), 91 IO101NB4F9 (io), 92 IO101PB4F9 (io), 96 IO87NB4F8 (io), 97 IO87PB4F8 (io), 100 IO85NB4F8 (io), 101 IO86NB4F8 (io), 102 IO86PB4F8 (io), 103 IO84PB4F8 (io), 106 IO83NB3F7 (io), 107 IO83PB3F7 (io), 108 IO82NB3F7 (io), 109 IO82PB3F7 (io), 110 IO81NB3F7 (io), 111 IO81PB3F7 (io), 114 IO79NB3F7 (io), 115 IO79PB3F7 (io), 116 IO77NB3F7 (io), 117 IO77PB3F7 (io), 120 IO68NB3F6 (io), 121 IO68PB3F6 (io), 122 IO66NB3F6 (io), 123 IO66PB3F6 (io), 126 IO64NB3F6 (io), 127 IO63NB3F6 (io), 128 IO64PB3F6 (io), 129 IO63PB3F6 (io), 131 IO62NB2F5 (io), 132 IO61NB2F5 (io), 133 IO62PB2F5 (io), 134 IO61PB2F5 (io), 137 IO59NB2F5 (io), 138 IO59PB2F5 (io), 139 IO57NB2F5 (io), 140 IO57PB2F5 (io), 141 IO58PB2F5 (io), 144 IO48NB2F4 (io), 145 IO48PB2F4 (io), 146 IO46NB2F4 (io), 147 IO46PB2F4 (io), 148 IO45PB2F4 (io), 151 IO43NB2F4 (io), 152 IO44NB2F4 (io), 153 IO43PB2F4 (io), 154 IO44PB2F4 (io), 159 IO41NB1F3 (io), 160 IO41PB1F3 (io), 161 IO39NB1F3 (io), 162 IO39PB1F3 (io), 165 IO37NB1F3 (io), 166 IO37PB1F3 (io), 170 IO23NB1F2 (io), 171 IO23PB1F2 (io), 174 IO22NB1F2/HCLKDN (io), 175 IO22PB1F2/HCLKDP (io), 180 IO21NB1F2/HCLKCN (io), 181 IO21PB1F2/HCLKCP (io), 185 IO20NB0F1/HCLKBN (io), 186 IO20PB0F1/HCLKBP (io), 191 IO19NB0F1/HCLKAN (io), 192 IO19PB0F1/HCLKAP (io), 197 IO04NB0F0 (io), 198 IO03NB0F0 (io), 199 IO03PB0F0 (io)
part B pins: 1 VCCDA (power), 2 VCCA (power), 8 VCCIB7 (power), 14 VCCA (power), 20 VCCIB7 (power), 26 VCCDA (power), 31 VCCIB6 (power), 38 VCCA (power), 45 VCCIB6 (power), 52 VCCA (power), 53 VCCDA (power), 58 VCCIB5 (power), 63 VCCDA (power), 64 VCCA (power), 68 VCCIB5 (power), 72 VCCPLH (power), 73 VCOMPLH (power), 74 VCCPLG (power), 75 VCOMPLG (power), 78 VCCDA (power), 79 PRD (out), 80 PRC (out), 83 VCCPLF (power), 84 VCOMPLF (power), 85 VCCPLE (power), 86 VCOMPLE (power), 89 VCCIB4 (power), 93 VCCA (power), 95 VCCDA (power), 98 VCCIB4 (power), 105 VCCDA (power), 112 VCCIB3 (power), 118 VCCA (power), 124 VCCIB3 (power), 130 VCCDA (power), 135 VCCIB2 (power), 142 VCCA (power), 149 VCCIB2 (power), 156 VCCA (power), 157 VCCDA (power), 158 VPUMP (power), 163 VCCIB1 (power), 167 VCCDA (power), 168 VCCA (power), 172 VCCIB1 (power), 176 VCCPLD (power), 177 VCOMPLD (power), 178 VCCPLC (power), 179 VCOMPLC (power), 182 VCCDA (power), 183 PRB (out), 184 PRA (out), 187 VCCPLB (power), 188 VCOMPLB (power), 189 VCCPLA (power), 190 VCOMPLA (power), 193 VCCIB0 (power), 195 VCCA (power), 200 VCCIB0 (power), 202 VCCDA (power), 203 TDO (hiz), 204 TDI (in), 205 TCK (in), 206 TMS (in), 207 ~{TRST} (in)
part C pins: 9 GND (power), 15 GND (power), 21 GND (power), 32 GND (power), 39 GND (power), 46 GND (power), 51 GND (power), 59 GND (power), 65 GND (power), 69 GND (power), 90 GND (power), 94 GND (power), 99 GND (power), 104 GND (power), 113 GND (power), 119 GND (power), 125 GND (power), 136 GND (power), 143 GND (power), 150 GND (power), 155 GND (power), 164 GND (power), 169 GND (power), 173 GND (power), 194 GND (power), 196 GND (power), 201 GND (power), 208 GND/LP (power)
part A text: Bank 0; Bank 1; Bank 7; Bank 2; Bank 6; Bank 3; Bank 5; Bank 4

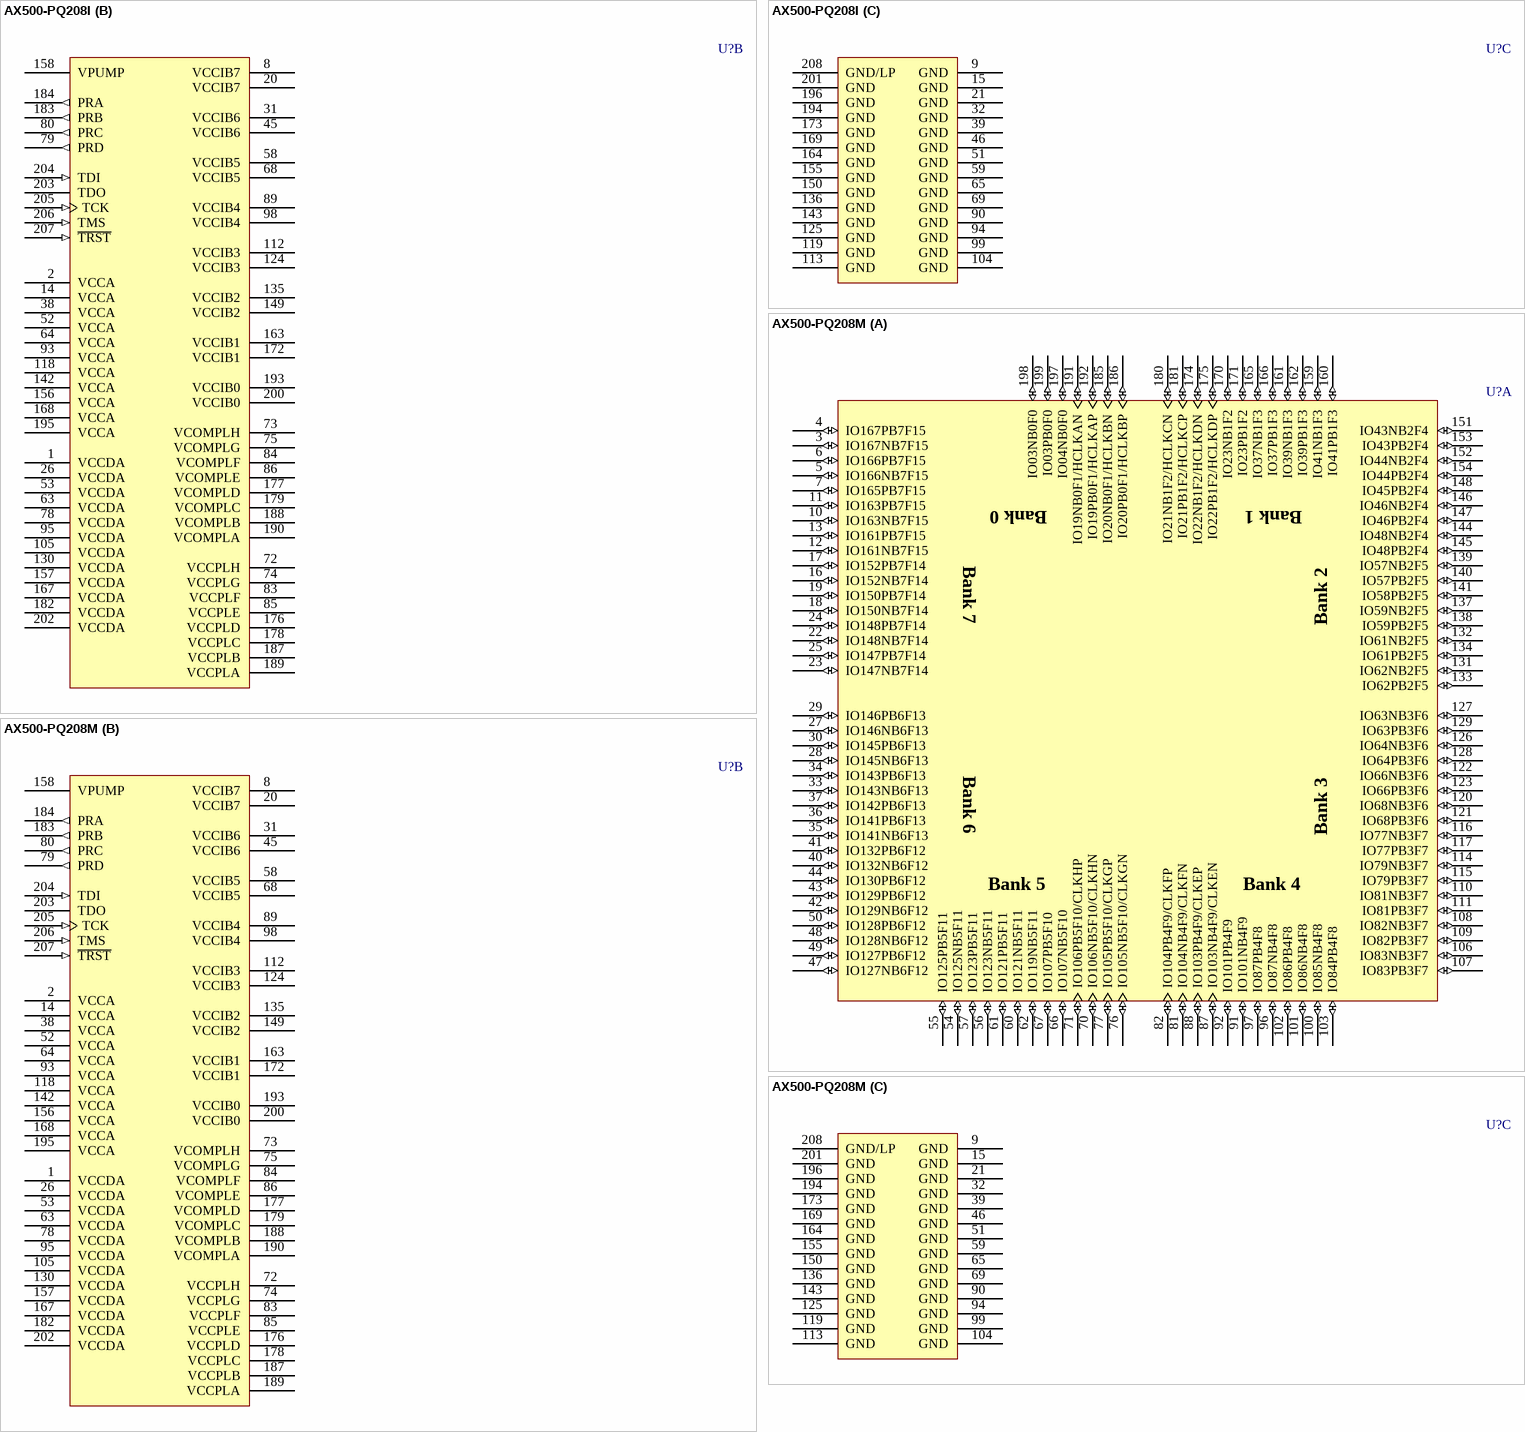
[diagram p182: symbols AX500-PQ208I to AX500-PQ208M]